# Altium integrated library Xilinx XC9500XL.IntLib: 169 symbols (part 3 of 12)
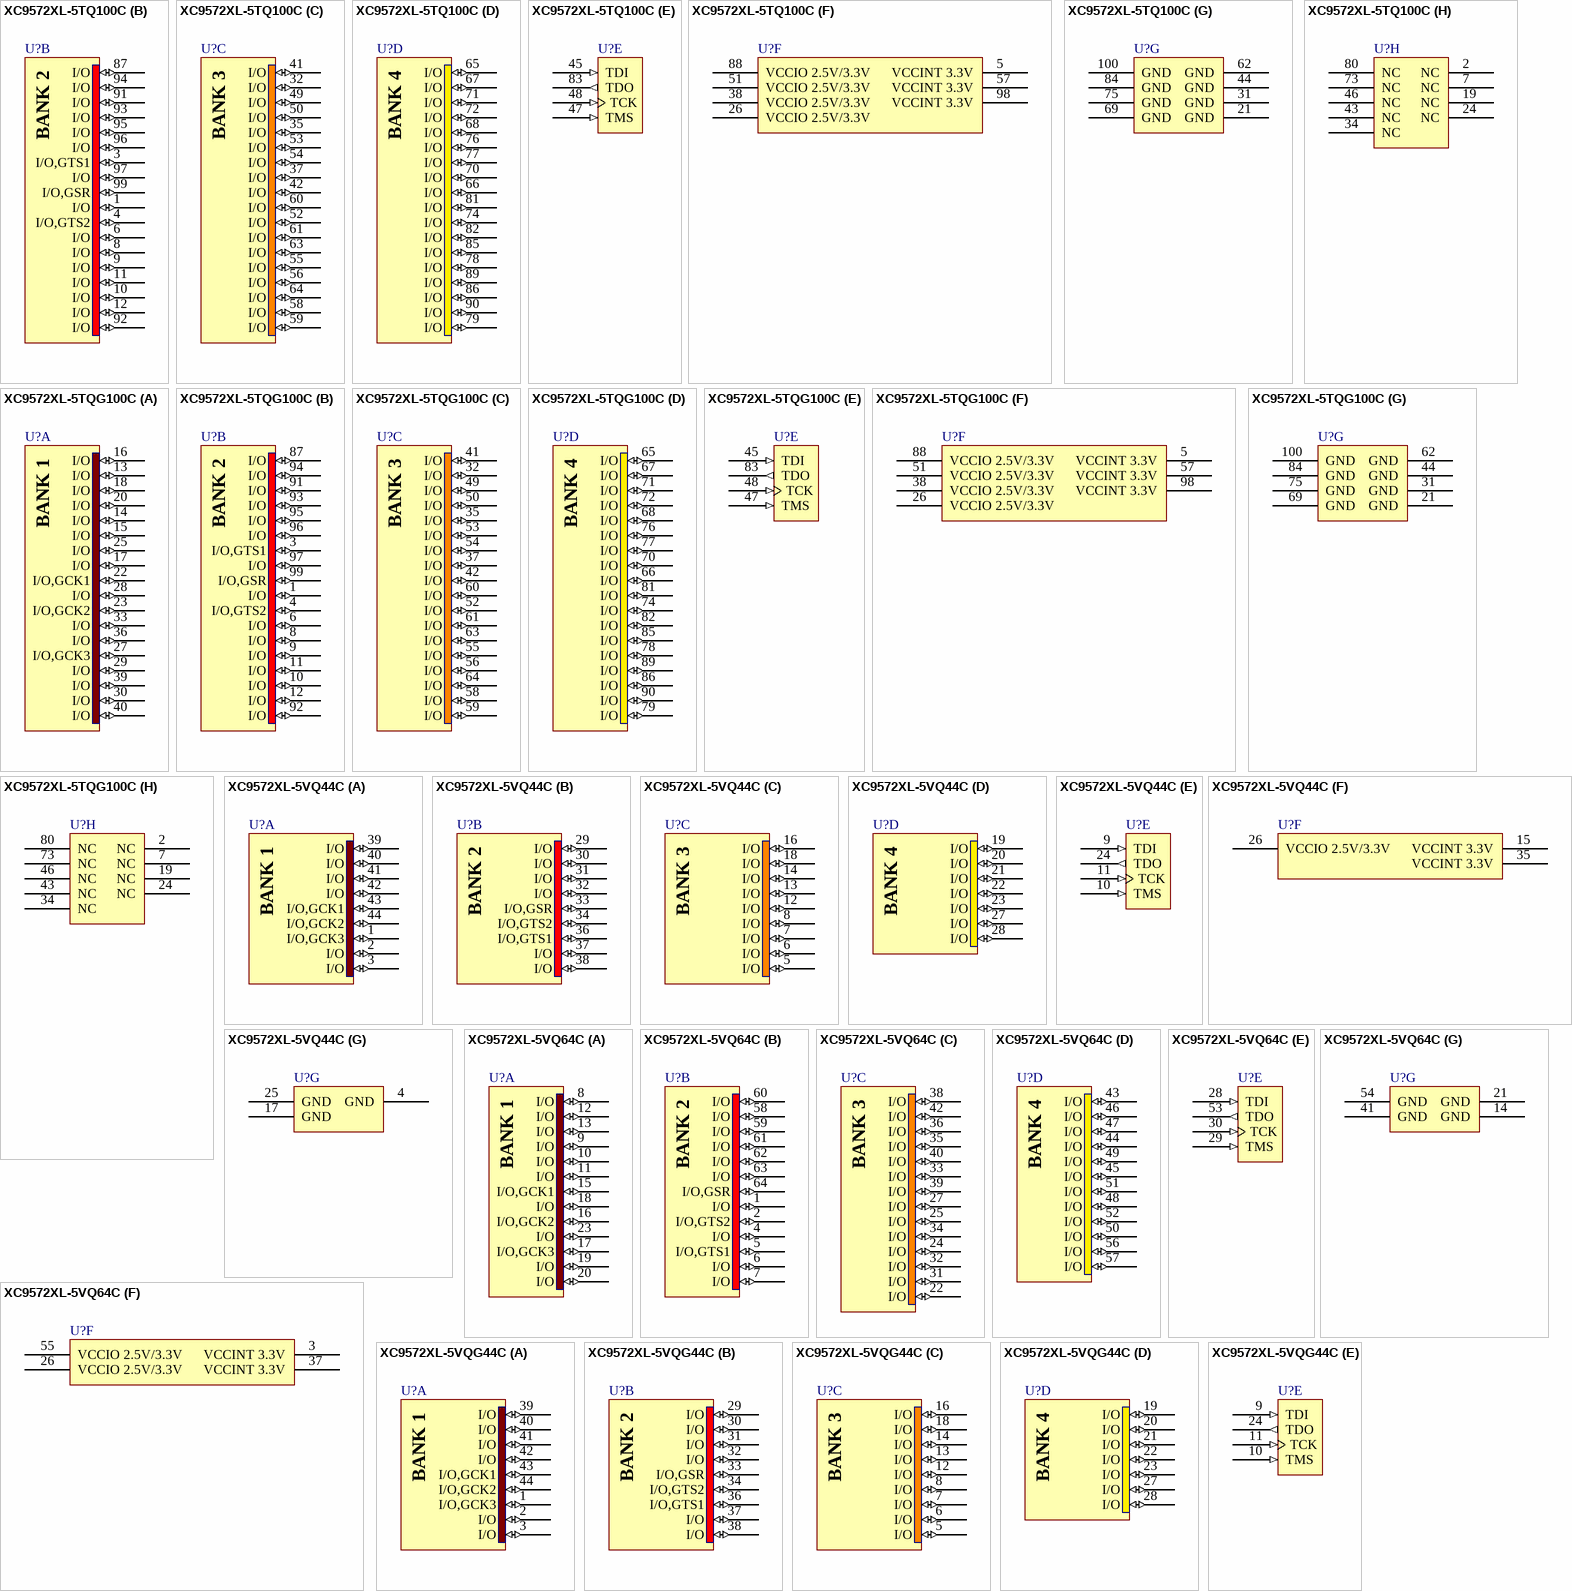
[diagram p60: symbols XC9572XL-5TQ100C to XC9572XL-5VQG44C]

## XC9572XL-5VQ64C
designator U?
FastFLASH XC900XL, 3.3V High-Performance 72 Macrocell CPLD, 52 User I/Os, 64-Pin VQFP, Speed Grade 5, Commercial Grade; Published: 17-Sep-2003; LatestRevisionDate: 18-Nov-2009; LatestRevisionNote: Updated to datasheet version 2.5 May-2009.; DatasheetVersion: ver2.0 Apr-2007; PackageVersion: ver1.2, Jun-2004; PackageReference: VQ64; Publisher: Altium Limited; PackageDescription: 64-Pin Very Thin Quad Flat Pack (VQ64); Supplier 1: Digi-Key; Supplier Part Number 1: XC9572XL-5VQ64C-ND; Code_JEDEC: MS-026-ACD; ComponentLink1Description: XC9572XL Datasheet; ComponentLink1URL: http://www.xilinx.com/support/documentation/data_sheets/ds057.pdf; ComponentLink2Description: VQ64 Package Drawing; ComponentLink2URL: http://www.xilinx.com/support/documentation/package_specs/vq64.pdf; ComponentLink3Description: XC9500XL Documents; ComponentLink3URL: http://www.xilinx.com/support/documentation/xc9500xl.htm; ComponentLink4Description: Xilinx.com Home; ComponentLink4URL: http://www.xilinx.com
footprint VQ64_N (Thin QFP, 64-Leads, Body 10x10mm, Pitch 0.5mm, IPC Medium Density)
footprint VQ64_L (Thin QFP, 64-Leads, Body 10x10mm, Pitch 0.5mm, IPC High Density)
footprint VQ64_M (Thin QFP, 64-Leads, Body 10x10mm, Pitch 0.5mm, IPC Low Density)
signal-integrity model XC9572XL_VQ64 (XC9500XL)
part A pins: 8 I/O (io), 9 I/O (io), 10 I/O (io), 11 I/O (io), 12 I/O (io), 13 I/O (io), 15 I/O,GCK1 (io), 16 I/O,GCK2 (io), 17 I/O,GCK3 (io), 18 I/O (io), 19 I/O (io), 20 I/O (io), 23 I/O (io)
part B pins: 1 I/O (io), 2 I/O,GTS2 (io), 4 I/O (io), 5 I/O,GTS1 (io), 6 I/O (io), 7 I/O (io), 58 I/O (io), 59 I/O (io), 60 I/O (io), 61 I/O (io), 62 I/O (io), 63 I/O (io), 64 I/O,GSR (io)
part C pins: 22 I/O (io), 24 I/O (io), 25 I/O (io), 27 I/O (io), 31 I/O (io), 32 I/O (io), 33 I/O (io), 34 I/O (io), 35 I/O (io), 36 I/O (io), 38 I/O (io), 39 I/O (io), 40 I/O (io), 42 I/O (io)
part D pins: 43 I/O (io), 44 I/O (io), 45 I/O (io), 46 I/O (io), 47 I/O (io), 48 I/O (io), 49 I/O (io), 50 I/O (io), 51 I/O (io), 52 I/O (io), 56 I/O (io), 57 I/O (io)
part E pins: 28 TDI (in), 29 TMS (in), 30 TCK (in), 53 TDO (out)
part F pins: 3 VCCINT 3.3V (power), 26 VCCIO 2.5V/3.3V (power), 37 VCCINT 3.3V (power), 55 VCCIO 2.5V/3.3V (power)
part G pins: 14 GND (power), 21 GND (power), 41 GND (power), 54 GND (power)
part A text: BANK 1
part B text: BANK 2
part C text: BANK 3
part D text: BANK 4

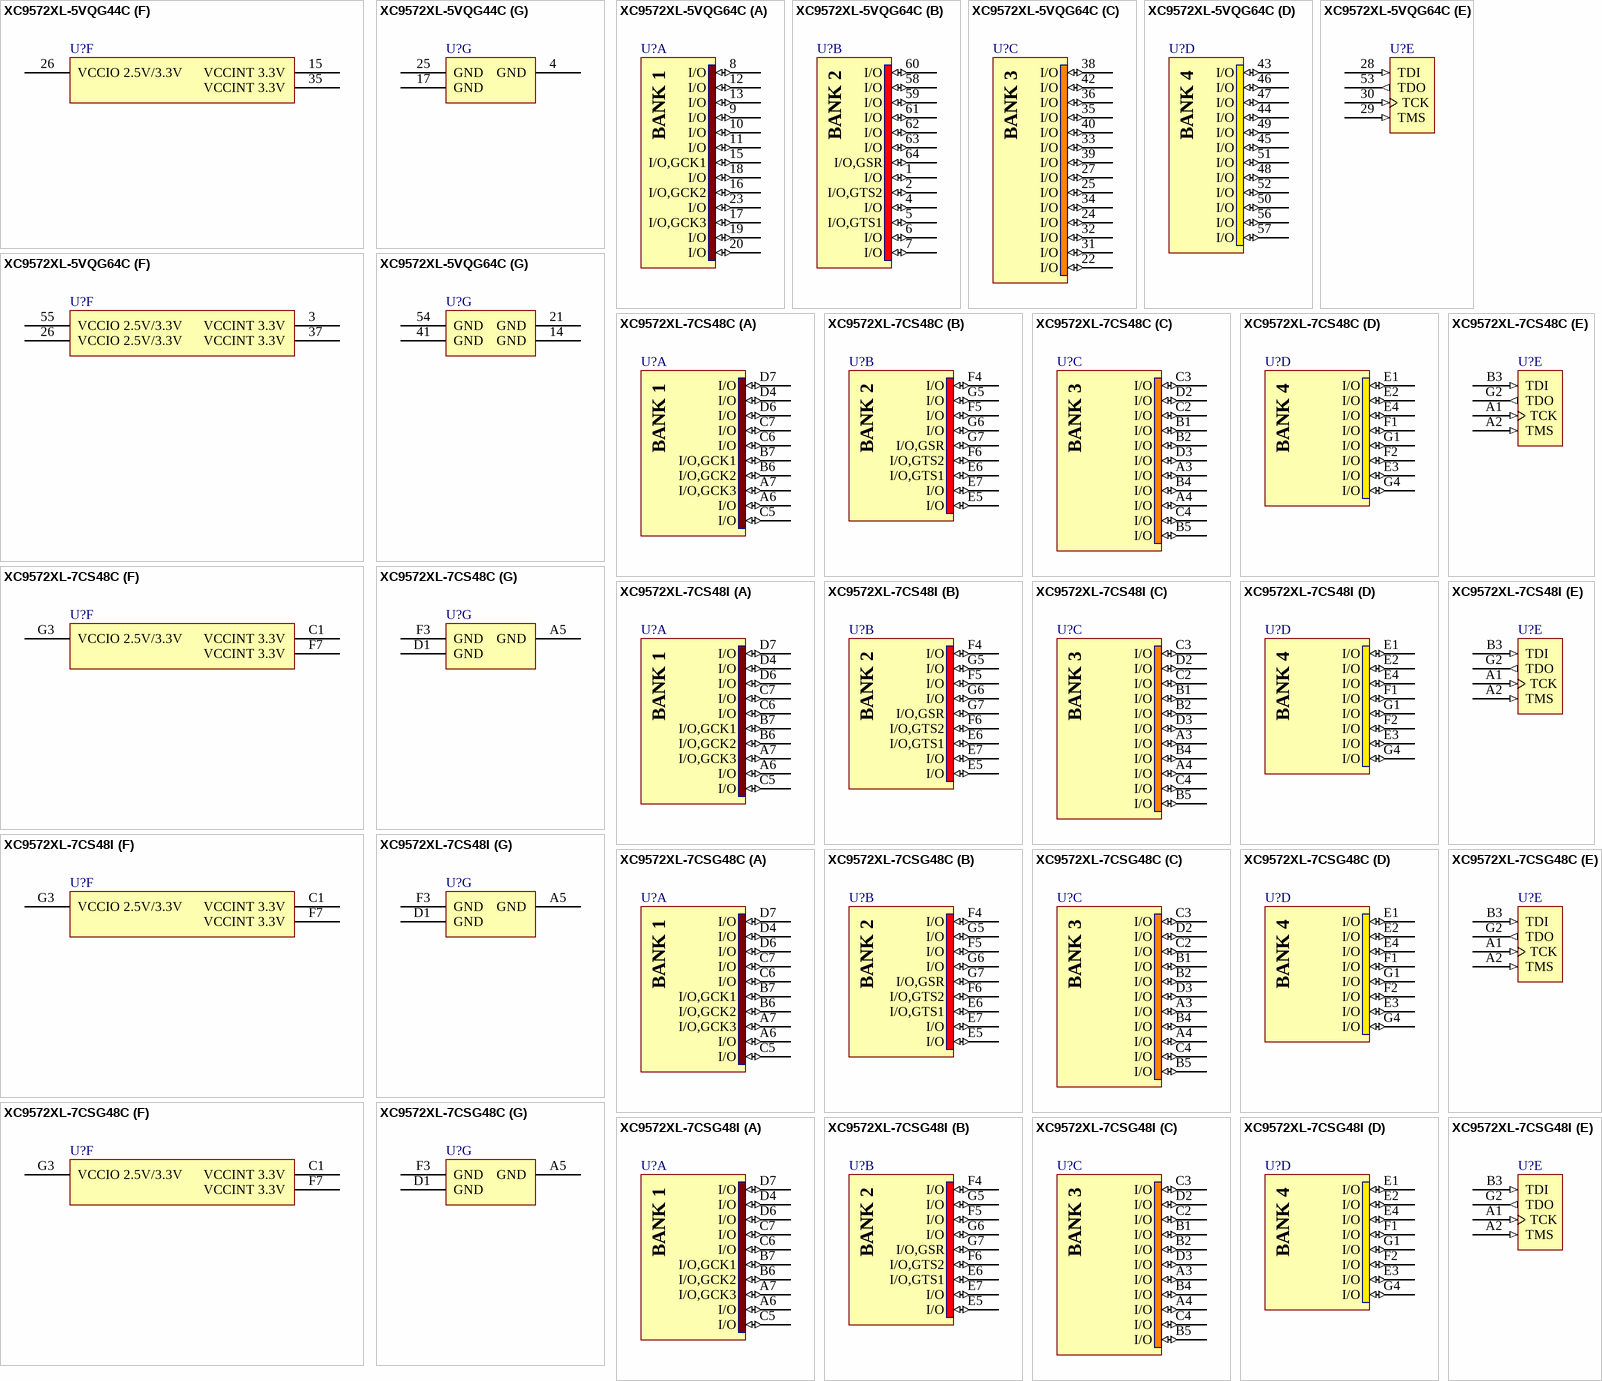
[diagram p10: symbols XC9572XL-5VQG44C to XC9572XL-7CSG48I]

## XC9572XL-5VQG44C
designator U?
FastFLASH XC900XL, 3.3V High-Performance 72 Macrocell CPLD, 34 User I/Os, 44-Pin VQFP, Speed Grade 5, Commercial Grade, Pb-Free; Published: 8-Sep-2006; LatestRevisionDate: 18-Nov-2009; LatestRevisionNote: Updated to datasheet version 2.5 May-2009.; DatasheetVersion: ver2.0 Apr-2007; PackageVersion: ver1.2, Jun-2004; PackageReference: VQG44; Publisher: Altium Limited; PackageDescription: 44-Pin Very Thin Quad Flat Pack (VQG44) - Pb-Free; Supplier 1: Digi-Key; Supplier Part Number 1: XC9572XL-5VQG44C-ND; Code_JEDEC: MS-026-ACB; ComponentLink1Description: XC9572XL Datasheet; ComponentLink1URL: http://www.xilinx.com/support/documentation/data_sheets/ds057.pdf; ComponentLink2Description: VQG44 Package Drawing; ComponentLink2URL: http://www.xilinx.com/support/documentation/package_specs/vq44.pdf; ComponentLink3Description: XC9500XL Documents; ComponentLink3URL: http://www.xilinx.com/support/documentation/xc9500xl.htm; ComponentLink4Description: Xilinx.com Home; ComponentLink4URL: http://www.xilinx.com
footprint VQG44_N (Thin QFP, 44-Leads, Body 10x10mm, Pitch 0.8mm, IPC Medium Density)
footprint VQG44_L (Thin QFP, 44-Leads, Body 10x10mm, Pitch 0.8mm, IPC High Density)
footprint VQG44_M (Thin QFP, 44-Leads, Body 10x10mm, Pitch 0.8mm, IPC Low Density)
signal-integrity model XC9572XL_VQ44 (XC9500XL)
part A pins: 1 I/O,GCK3 (io), 2 I/O (io), 3 I/O (io), 39 I/O (io), 40 I/O (io), 41 I/O (io), 42 I/O (io), 43 I/O,GCK1 (io), 44 I/O,GCK2 (io)
part B pins: 29 I/O (io), 30 I/O (io), 31 I/O (io), 32 I/O (io), 33 I/O,GSR (io), 34 I/O,GTS2 (io), 36 I/O,GTS1 (io), 37 I/O (io), 38 I/O (io)
part C pins: 5 I/O (io), 6 I/O (io), 7 I/O (io), 8 I/O (io), 12 I/O (io), 13 I/O (io), 14 I/O (io), 16 I/O (io), 18 I/O (io)
part D pins: 19 I/O (io), 20 I/O (io), 21 I/O (io), 22 I/O (io), 23 I/O (io), 27 I/O (io), 28 I/O (io)
part E pins: 9 TDI (in), 10 TMS (in), 11 TCK (in), 24 TDO (out)
part F pins: 15 VCCINT 3.3V (power), 26 VCCIO 2.5V/3.3V (power), 35 VCCINT 3.3V (power)
part G pins: 4 GND (power), 17 GND (power), 25 GND (power)
part A text: BANK 1
part B text: BANK 2
part C text: BANK 3
part D text: BANK 4

## XC9572XL-5VQG64C
designator U?
FastFLASH XC900XL, 3.3V High-Performance 72 Macrocell CPLD, 52 User I/Os, 64-Pin VQFP, Speed Grade 5, Commercial Grade, Pb-Free; Published: 8-Sep-2006; LatestRevisionDate: 18-Nov-2009; LatestRevisionNote: Updated to datasheet version 2.5 May-2009.; DatasheetVersion: ver2.0 Apr-2007; PackageVersion: ver1.2, Jun-2004; PackageReference: VQG64; Publisher: Altium Limited; PackageDescription: 64-Pin Very Thin Quad Flat Pack (VQG64) - Pb-Free; Supplier 1: Digi-Key; Supplier Part Number 1: XC9572XL-5VQG64C-ND; Supplier 2: Newark; Supplier Part Number 2: 75R4567; Code_JEDEC: MS-026-ACD; ComponentLink1Description: XC9572XL Datasheet; ComponentLink1URL: http://www.xilinx.com/support/documentation/data_sheets/ds057.pdf; ComponentLink2Description: VQG64 Package Drawing; ComponentLink2URL: http://www.xilinx.com/support/documentation/package_specs/vq64.pdf; ComponentLink3Description: XC9500XL Documents; ComponentLink3URL: http://www.xilinx.com/support/documentation/xc9500xl.htm; ComponentLink4Description: Xilinx.com Home; ComponentLink4URL: http://www.xilinx.com
footprint VQG64_N (Thin QFP, 64-Leads, Body 10x10mm, Pitch 0.5mm, IPC Medium Density)
footprint VQG64_L (Thin QFP, 64-Leads, Body 10x10mm, Pitch 0.5mm, IPC High Density)
footprint VQG64_M (Thin QFP, 64-Leads, Body 10x10mm, Pitch 0.5mm, IPC Low Density)
signal-integrity model XC9572XL_VQ64 (XC9500XL)
part A pins: 8 I/O (io), 9 I/O (io), 10 I/O (io), 11 I/O (io), 12 I/O (io), 13 I/O (io), 15 I/O,GCK1 (io), 16 I/O,GCK2 (io), 17 I/O,GCK3 (io), 18 I/O (io), 19 I/O (io), 20 I/O (io), 23 I/O (io)
part B pins: 1 I/O (io), 2 I/O,GTS2 (io), 4 I/O (io), 5 I/O,GTS1 (io), 6 I/O (io), 7 I/O (io), 58 I/O (io), 59 I/O (io), 60 I/O (io), 61 I/O (io), 62 I/O (io), 63 I/O (io), 64 I/O,GSR (io)
part C pins: 22 I/O (io), 24 I/O (io), 25 I/O (io), 27 I/O (io), 31 I/O (io), 32 I/O (io), 33 I/O (io), 34 I/O (io), 35 I/O (io), 36 I/O (io), 38 I/O (io), 39 I/O (io), 40 I/O (io), 42 I/O (io)
part D pins: 43 I/O (io), 44 I/O (io), 45 I/O (io), 46 I/O (io), 47 I/O (io), 48 I/O (io), 49 I/O (io), 50 I/O (io), 51 I/O (io), 52 I/O (io), 56 I/O (io), 57 I/O (io)
part E pins: 28 TDI (in), 29 TMS (in), 30 TCK (in), 53 TDO (out)
part F pins: 3 VCCINT 3.3V (power), 26 VCCIO 2.5V/3.3V (power), 37 VCCINT 3.3V (power), 55 VCCIO 2.5V/3.3V (power)
part G pins: 14 GND (power), 21 GND (power), 41 GND (power), 54 GND (power)
part A text: BANK 1
part B text: BANK 2
part C text: BANK 3
part D text: BANK 4

## XC9572XL-7CS48C
designator U?
FastFLASH XC900XL, 3.3V High-Performance 72 Macrocell CPLD, 38 User I/Os, 48-Ball CSBGA, Speed Grade 7, Commercial Grade; Published: 17-Jul-2002; LatestRevisionDate: 18-Nov-2009; LatestRevisionNote: Updated to datasheet version 2.5 May-2009.; DatasheetVersion: ver2.0 Apr-2007; PackageVersion: ver1.2.1, Apr-2005; PackageReference: CS48; Publisher: Altium Limited; PackageDescription: 48-Ball Chip Scale Ball Grid Array (CS48); Supplier 1: Digi-Key; Supplier Part Number 1: XC9572XL-7CS48C-ND; ComponentLink1Description: XC9572XL Datasheet; ComponentLink1URL: http://www.xilinx.com/support/documentation/data_sheets/ds057.pdf; ComponentLink2Description: CS48 Package Drawing; ComponentLink2URL: http://www.xilinx.com/support/documentation/package_specs/cs48.pdf; ComponentLink3Description: XC9500XL Documents; ComponentLink3URL: http://www.xilinx.com/support/documentation/xc9500xl.htm; ComponentLink4Description: Xilinx.com Home; ComponentLink4URL: http://www.xilinx.com
footprint CS48 (BGA, 48-Leads, Body 7x7mm, Pitch 0.8mm)
signal-integrity model XC9572XL_CS48 (XC9500XL)
part A pins: A6 I/O (io), A7 I/O,GCK3 (io), B6 I/O,GCK2 (io), B7 I/O,GCK1 (io), C5 I/O (io), C6 I/O (io), C7 I/O (io), D4 I/O (io), D6 I/O (io), D7 I/O (io)
part B pins: E5 I/O (io), E6 I/O,GTS1 (io), E7 I/O (io), F4 I/O (io), F5 I/O (io), F6 I/O,GTS2 (io), G5 I/O (io), G6 I/O (io), G7 I/O,GSR (io)
part C pins: A3 I/O (io), A4 I/O (io), B1 I/O (io), B2 I/O (io), B4 I/O (io), B5 I/O (io), C2 I/O (io), C3 I/O (io), C4 I/O (io), D2 I/O (io), D3 I/O (io)
part D pins: E1 I/O (io), E2 I/O (io), E3 I/O (io), E4 I/O (io), F1 I/O (io), F2 I/O (io), G1 I/O (io), G4 I/O (io)
part E pins: A1 TCK (in), A2 TMS (in), B3 TDI (in), G2 TDO (out)
part F pins: C1 VCCINT 3.3V (power), F7 VCCINT 3.3V (power), G3 VCCIO 2.5V/3.3V (power)
part G pins: A5 GND (power), D1 GND (power), F3 GND (power)
part A text: BANK 1
part B text: BANK 2
part C text: BANK 3
part D text: BANK 4

## XC9572XL-7CS48I
designator U?
FastFLASH XC900XL, 3.3V High-Performance 72 Macrocell CPLD, 38 User I/Os, 48-Ball CSBGA, Speed Grade 7, Industrial Grade; Published: 17-Sep-2003; LatestRevisionDate: 18-Nov-2009; LatestRevisionNote: Updated to datasheet version 2.5 May-2009.; DatasheetVersion: ver2.0 Apr-2007; PackageVersion: ver1.2.1, Apr-2005; PackageReference: CS48; Publisher: Altium Limited; PackageDescription: 48-Ball Chip Scale Ball Grid Array (CS48); ComponentLink1Description: XC9572XL Datasheet; ComponentLink1URL: http://www.xilinx.com/support/documentation/data_sheets/ds057.pdf; ComponentLink2Description: CS48 Package Drawing; ComponentLink2URL: http://www.xilinx.com/support/documentation/package_specs/cs48.pdf; ComponentLink3Description: XC9500XL Documents; ComponentLink3URL: http://www.xilinx.com/support/documentation/xc9500xl.htm; ComponentLink4Description: Xilinx.com Home; ComponentLink4URL: http://www.xilinx.com
footprint CS48 (BGA, 48-Leads, Body 7x7mm, Pitch 0.8mm)
signal-integrity model XC9572XL_CS48 (XC9500XL)
part A pins: A6 I/O (io), A7 I/O,GCK3 (io), B6 I/O,GCK2 (io), B7 I/O,GCK1 (io), C5 I/O (io), C6 I/O (io), C7 I/O (io), D4 I/O (io), D6 I/O (io), D7 I/O (io)
part B pins: E5 I/O (io), E6 I/O,GTS1 (io), E7 I/O (io), F4 I/O (io), F5 I/O (io), F6 I/O,GTS2 (io), G5 I/O (io), G6 I/O (io), G7 I/O,GSR (io)
part C pins: A3 I/O (io), A4 I/O (io), B1 I/O (io), B2 I/O (io), B4 I/O (io), B5 I/O (io), C2 I/O (io), C3 I/O (io), C4 I/O (io), D2 I/O (io), D3 I/O (io)
part D pins: E1 I/O (io), E2 I/O (io), E3 I/O (io), E4 I/O (io), F1 I/O (io), F2 I/O (io), G1 I/O (io), G4 I/O (io)
part E pins: A1 TCK (in), A2 TMS (in), B3 TDI (in), G2 TDO (out)
part F pins: C1 VCCINT 3.3V (power), F7 VCCINT 3.3V (power), G3 VCCIO 2.5V/3.3V (power)
part G pins: A5 GND (power), D1 GND (power), F3 GND (power)
part A text: BANK 1
part B text: BANK 2
part C text: BANK 3
part D text: BANK 4

## XC9572XL-7CSG48C
designator U?
FastFLASH XC900XL, 3.3V High-Performance 72 Macrocell CPLD, 38 User I/Os, 48-Ball CSBGA, Speed Grade 7, Commercial Grade, Pb-Free; Published: 8-Sep-2006; LatestRevisionDate: 18-Nov-2009; LatestRevisionNote: Updated to datasheet version 2.5 May-2009.; DatasheetVersion: ver2.0 Apr-2007; PackageVersion: ver1.2.1, Apr-2005; PackageReference: CSG48; Publisher: Altium Limited; PackageDescription: 48-Ball Chip Scale Ball Grid Array (CSG48) - Pb-Free; Supplier 1: Digi-Key; Supplier Part Number 1: XC9572XL-7CSG48C-ND; ComponentLink1Description: XC9572XL Datasheet; ComponentLink1URL: http://www.xilinx.com/support/documentation/data_sheets/ds057.pdf; ComponentLink2Description: CSG48 Package Drawing; ComponentLink2URL: http://www.xilinx.com/support/documentation/package_specs/cs48.pdf; ComponentLink3Description: XC9500XL Documents; ComponentLink3URL: http://www.xilinx.com/support/documentation/xc9500xl.htm; ComponentLink4Description: Xilinx.com Home; ComponentLink4URL: http://www.xilinx.com
footprint CSG48 (BGA, 48-Leads, Body 7x7mm, Pitch 0.8mm)
signal-integrity model XC9572XL_CS48 (XC9500XL)
part A pins: A6 I/O (io), A7 I/O,GCK3 (io), B6 I/O,GCK2 (io), B7 I/O,GCK1 (io), C5 I/O (io), C6 I/O (io), C7 I/O (io), D4 I/O (io), D6 I/O (io), D7 I/O (io)
part B pins: E5 I/O (io), E6 I/O,GTS1 (io), E7 I/O (io), F4 I/O (io), F5 I/O (io), F6 I/O,GTS2 (io), G5 I/O (io), G6 I/O (io), G7 I/O,GSR (io)
part C pins: A3 I/O (io), A4 I/O (io), B1 I/O (io), B2 I/O (io), B4 I/O (io), B5 I/O (io), C2 I/O (io), C3 I/O (io), C4 I/O (io), D2 I/O (io), D3 I/O (io)
part D pins: E1 I/O (io), E2 I/O (io), E3 I/O (io), E4 I/O (io), F1 I/O (io), F2 I/O (io), G1 I/O (io), G4 I/O (io)
part E pins: A1 TCK (in), A2 TMS (in), B3 TDI (in), G2 TDO (out)
part F pins: C1 VCCINT 3.3V (power), F7 VCCINT 3.3V (power), G3 VCCIO 2.5V/3.3V (power)
part G pins: A5 GND (power), D1 GND (power), F3 GND (power)
part A text: BANK 1
part B text: BANK 2
part C text: BANK 3
part D text: BANK 4

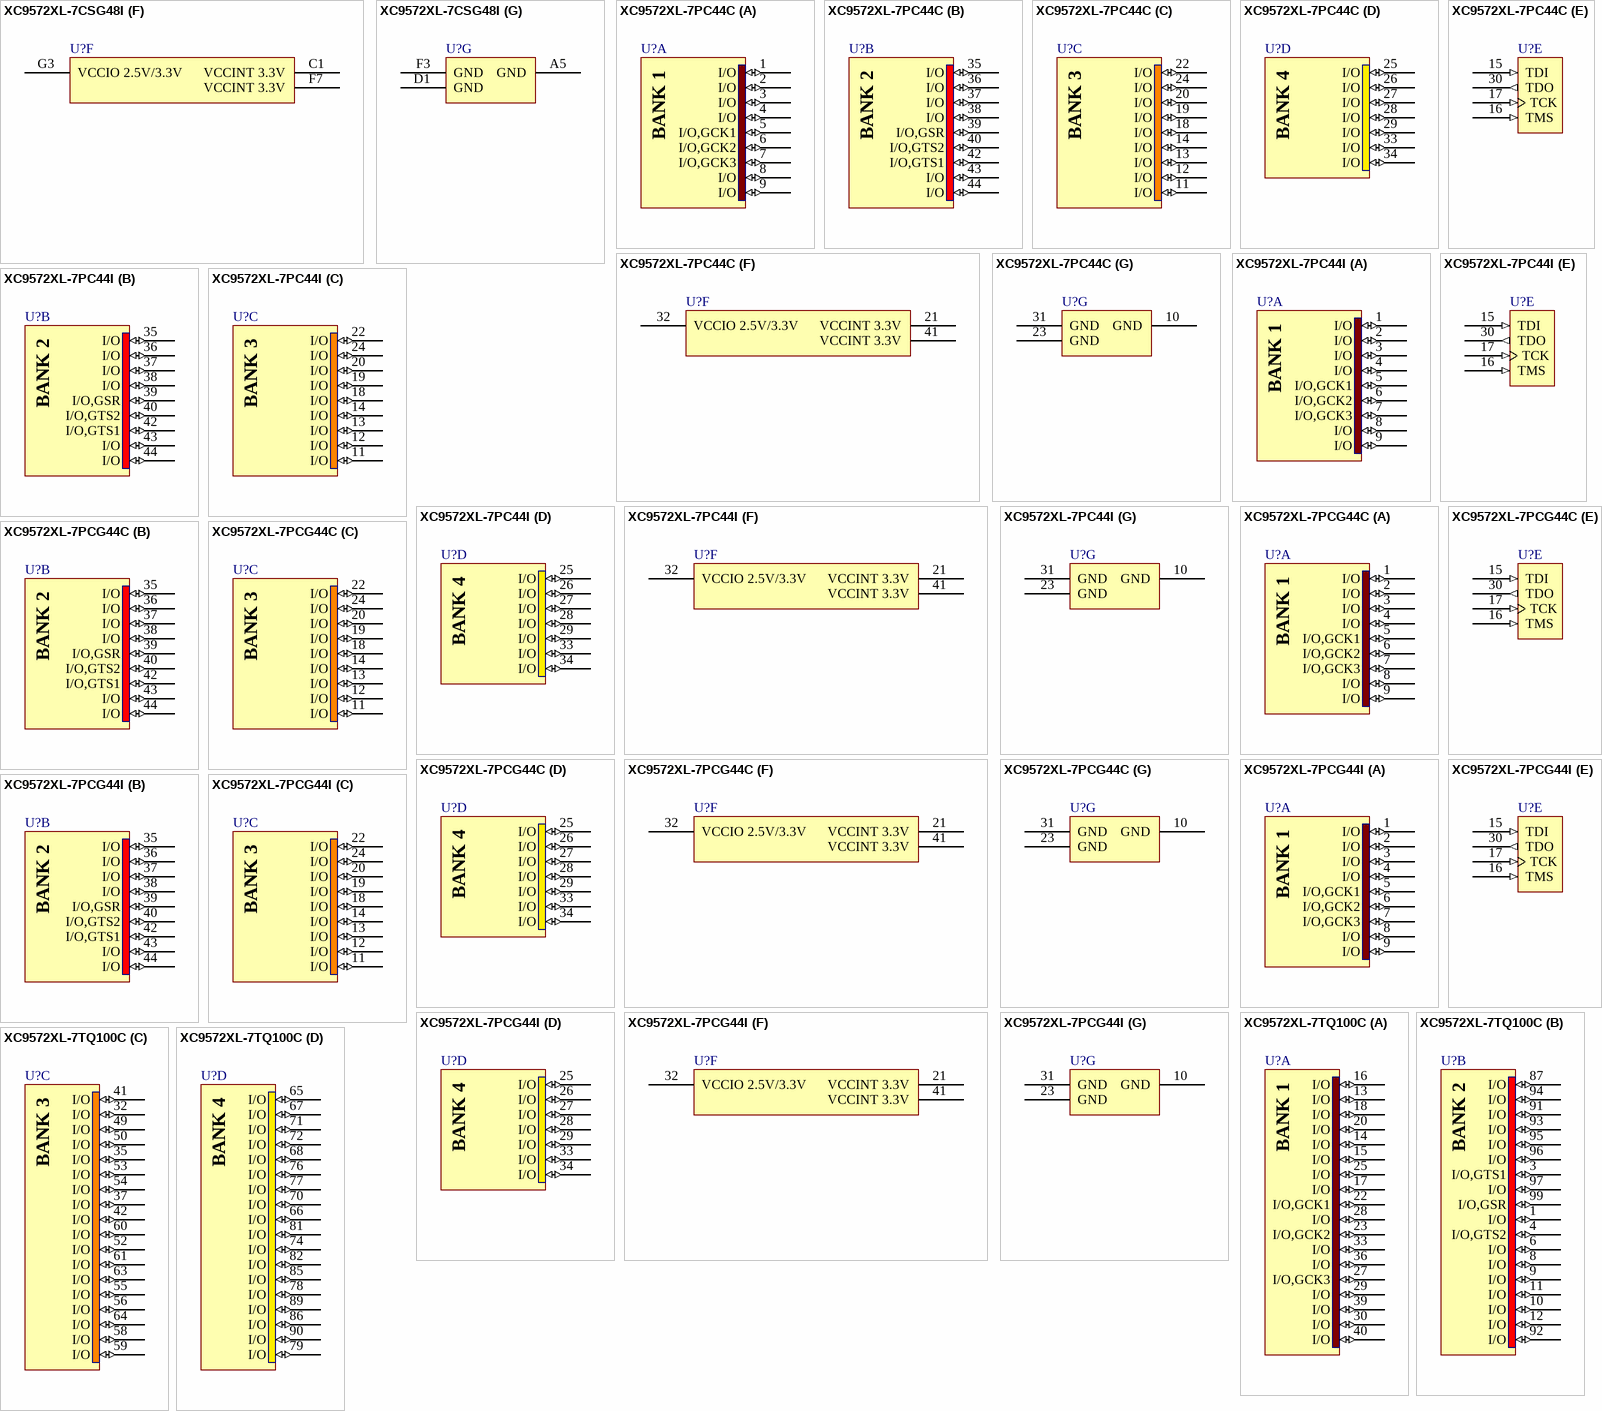
[diagram p11: symbols XC9572XL-7CSG48I to XC9572XL-7TQ100C]

## XC9572XL-7CSG48I
designator U?
FastFLASH XC900XL, 3.3V High-Performance 72 Macrocell CPLD, 38 User I/Os, 48-Ball CSBGA, Speed Grade 7, Industrial Grade, Pb-Free; Published: 8-Sep-2006; LatestRevisionDate: 18-Nov-2009; LatestRevisionNote: Updated to datasheet version 2.5 May-2009.; DatasheetVersion: ver2.0 Apr-2007; PackageVersion: ver1.2.1, Apr-2005; PackageReference: CSG48; Publisher: Altium Limited; PackageDescription: 48-Ball Chip Scale Ball Grid Array (CSG48) - Pb-Free; Supplier 1: Digi-Key; Supplier Part Number 1: XC9572XL-7CSG48I-ND; ComponentLink1Description: XC9572XL Datasheet; ComponentLink1URL: http://www.xilinx.com/support/documentation/data_sheets/ds057.pdf; ComponentLink2Description: CSG48 Package Drawing; ComponentLink2URL: http://www.xilinx.com/support/documentation/package_specs/cs48.pdf; ComponentLink3Description: XC9500XL Documents; ComponentLink3URL: http://www.xilinx.com/support/documentation/xc9500xl.htm; ComponentLink4Description: Xilinx.com Home; ComponentLink4URL: http://www.xilinx.com
footprint CSG48 (BGA, 48-Leads, Body 7x7mm, Pitch 0.8mm)
signal-integrity model XC9572XL_CS48 (XC9500XL)
part A pins: A6 I/O (io), A7 I/O,GCK3 (io), B6 I/O,GCK2 (io), B7 I/O,GCK1 (io), C5 I/O (io), C6 I/O (io), C7 I/O (io), D4 I/O (io), D6 I/O (io), D7 I/O (io)
part B pins: E5 I/O (io), E6 I/O,GTS1 (io), E7 I/O (io), F4 I/O (io), F5 I/O (io), F6 I/O,GTS2 (io), G5 I/O (io), G6 I/O (io), G7 I/O,GSR (io)
part C pins: A3 I/O (io), A4 I/O (io), B1 I/O (io), B2 I/O (io), B4 I/O (io), B5 I/O (io), C2 I/O (io), C3 I/O (io), C4 I/O (io), D2 I/O (io), D3 I/O (io)
part D pins: E1 I/O (io), E2 I/O (io), E3 I/O (io), E4 I/O (io), F1 I/O (io), F2 I/O (io), G1 I/O (io), G4 I/O (io)
part E pins: A1 TCK (in), A2 TMS (in), B3 TDI (in), G2 TDO (out)
part F pins: C1 VCCINT 3.3V (power), F7 VCCINT 3.3V (power), G3 VCCIO 2.5V/3.3V (power)
part G pins: A5 GND (power), D1 GND (power), F3 GND (power)
part A text: BANK 1
part B text: BANK 2
part C text: BANK 3
part D text: BANK 4

## XC9572XL-7PC44C
designator U?
FastFLASH XC900XL, 3.3V High-Performance 72 Macrocell CPLD, 34 User I/Os, 44-Pin PLCC, Speed Grade 7, Commercial Grade; Published: 17-Jul-2002; LatestRevisionDate: 18-Nov-2009; LatestRevisionNote: Updated to datasheet version 2.5 May-2009.; DatasheetVersion: ver2.0 Apr-2007; PackageVersion: ver1.2, Jun-2004; PackageReference: PC44; Publisher: Altium Limited; PackageDescription: 44-Pin Plastic Leaded Chip Carrier (PC44); Supplier 1: Digi-Key; Supplier Part Number 1: 122-1270-ND; Code_JEDEC: MS-047; Code_IPC: PLCC-44; ComponentLink1Description: XC9572XL Datasheet; ComponentLink1URL: http://www.xilinx.com/support/documentation/data_sheets/ds057.pdf; ComponentLink2Description: PC44 Package Drawing; ComponentLink2URL: http://www.xilinx.com/support/documentation/package_specs/pc44.pdf; ComponentLink3Description: XC9500XL Documents; ComponentLink3URL: http://www.xilinx.com/support/documentation/xc9500xl.htm; ComponentLink4Description: Xilinx.com Home; ComponentLink4URL: http://www.xilinx.com
footprint PC44_N (Leaded Chip Carrier, 44-Leads, Body 16.6x16.6mm, Pitch 1.27mm, IPC Medium Density)
footprint PC44_L (Leaded Chip Carrier, 44-Leads, Body 16.6x16.6mm, Pitch 1.27mm, IPC High Density)
footprint PC44_M (Leaded Chip Carrier, 44-Leads, Body 16.6x16.6mm, Pitch 1.27mm, IPC Low Density)
signal-integrity model XC9572XL_PLCC44 (XC9500XL)
part A pins: 1 I/O (io), 2 I/O (io), 3 I/O (io), 4 I/O (io), 5 I/O,GCK1 (io), 6 I/O,GCK2 (io), 7 I/O,GCK3 (io), 8 I/O (io), 9 I/O (io)
part B pins: 35 I/O (io), 36 I/O (io), 37 I/O (io), 38 I/O (io), 39 I/O,GSR (io), 40 I/O,GTS2 (io), 42 I/O,GTS1 (io), 43 I/O (io), 44 I/O (io)
part C pins: 11 I/O (io), 12 I/O (io), 13 I/O (io), 14 I/O (io), 18 I/O (io), 19 I/O (io), 20 I/O (io), 22 I/O (io), 24 I/O (io)
part D pins: 25 I/O (io), 26 I/O (io), 27 I/O (io), 28 I/O (io), 29 I/O (io), 33 I/O (io), 34 I/O (io)
part E pins: 15 TDI (in), 16 TMS (in), 17 TCK (in), 30 TDO (out)
part F pins: 21 VCCINT 3.3V (power), 32 VCCIO 2.5V/3.3V (power), 41 VCCINT 3.3V (power)
part G pins: 10 GND (power), 23 GND (power), 31 GND (power)
part A text: BANK 1
part B text: BANK 2
part C text: BANK 3
part D text: BANK 4

## XC9572XL-7PC44I
designator U?
FastFLASH XC900XL, 3.3V High-Performance 72 Macrocell CPLD, 34 User I/Os, 44-Pin PLCC, Speed Grade 7, Industrial Grade; Published: 17-Jul-2002; LatestRevisionDate: 18-Nov-2009; LatestRevisionNote: Updated to datasheet version 2.5 May-2009.; DatasheetVersion: ver2.0 Apr-2007; PackageVersion: ver1.2, Jun-2004; PackageReference: PC44; Publisher: Altium Limited; PackageDescription: 44-Pin Plastic Leaded Chip Carrier (PC44); Code_JEDEC: MS-047; Code_IPC: PLCC-44; ComponentLink1Description: XC9572XL Datasheet; ComponentLink1URL: http://www.xilinx.com/support/documentation/data_sheets/ds057.pdf; ComponentLink2Description: PC44 Package Drawing; ComponentLink2URL: http://www.xilinx.com/support/documentation/package_specs/pc44.pdf; ComponentLink3Description: XC9500XL Documents; ComponentLink3URL: http://www.xilinx.com/support/documentation/xc9500xl.htm; ComponentLink4Description: Xilinx.com Home; ComponentLink4URL: http://www.xilinx.com
footprint PC44_N (Leaded Chip Carrier, 44-Leads, Body 16.6x16.6mm, Pitch 1.27mm, IPC Medium Density)
footprint PC44_L (Leaded Chip Carrier, 44-Leads, Body 16.6x16.6mm, Pitch 1.27mm, IPC High Density)
footprint PC44_M (Leaded Chip Carrier, 44-Leads, Body 16.6x16.6mm, Pitch 1.27mm, IPC Low Density)
signal-integrity model XC9572XL_PLCC44 (XC9500XL)
part A pins: 1 I/O (io), 2 I/O (io), 3 I/O (io), 4 I/O (io), 5 I/O,GCK1 (io), 6 I/O,GCK2 (io), 7 I/O,GCK3 (io), 8 I/O (io), 9 I/O (io)
part B pins: 35 I/O (io), 36 I/O (io), 37 I/O (io), 38 I/O (io), 39 I/O,GSR (io), 40 I/O,GTS2 (io), 42 I/O,GTS1 (io), 43 I/O (io), 44 I/O (io)
part C pins: 11 I/O (io), 12 I/O (io), 13 I/O (io), 14 I/O (io), 18 I/O (io), 19 I/O (io), 20 I/O (io), 22 I/O (io), 24 I/O (io)
part D pins: 25 I/O (io), 26 I/O (io), 27 I/O (io), 28 I/O (io), 29 I/O (io), 33 I/O (io), 34 I/O (io)
part E pins: 15 TDI (in), 16 TMS (in), 17 TCK (in), 30 TDO (out)
part F pins: 21 VCCINT 3.3V (power), 32 VCCIO 2.5V/3.3V (power), 41 VCCINT 3.3V (power)
part G pins: 10 GND (power), 23 GND (power), 31 GND (power)
part A text: BANK 1
part B text: BANK 2
part C text: BANK 3
part D text: BANK 4

## XC9572XL-7PCG44C
designator U?
FastFLASH XC900XL, 3.3V High-Performance 72 Macrocell CPLD, 34 User I/Os, 44-Pin PLCC, Speed Grade 7, Commercial Grade, Pb-Free; Published: 8-Sep-2006; LatestRevisionDate: 18-Nov-2009; LatestRevisionNote: Updated to datasheet version 2.5 May-2009.; DatasheetVersion: ver2.0 Apr-2007; PackageVersion: ver1.2, Jun-2004; PackageReference: PCG44; Publisher: Altium Limited; PackageDescription: 44-Pin Plastic Leaded Chip Carrier (PCG44) - Pb-Free; Supplier 1: Digi-Key; Supplier Part Number 1: XC9572XL-7PCG44C-ND; Code_JEDEC: MS-047; Code_IPC: PLCC-44; ComponentLink1Description: XC9572XL Datasheet; ComponentLink1URL: http://www.xilinx.com/support/documentation/data_sheets/ds057.pdf; ComponentLink2Description: PCG44 Package Drawing; ComponentLink2URL: http://www.xilinx.com/support/documentation/package_specs/pc44.pdf; ComponentLink3Description: XC9500XL Documents; ComponentLink3URL: http://www.xilinx.com/support/documentation/xc9500xl.htm; ComponentLink4Description: Xilinx.com Home; ComponentLink4URL: http://www.xilinx.com
footprint PCG44_N (Leaded Chip Carrier, 44-Leads, Body 16.6x16.6mm, Pitch 1.27mm, IPC Medium Density)
footprint PCG44_L (Leaded Chip Carrier, 44-Leads, Body 16.6x16.6mm, Pitch 1.27mm, IPC High Density)
footprint PCG44_M (Leaded Chip Carrier, 44-Leads, Body 16.6x16.6mm, Pitch 1.27mm, IPC Low Density)
signal-integrity model XC9572XL_PLCC44 (XC9500XL)
part A pins: 1 I/O (io), 2 I/O (io), 3 I/O (io), 4 I/O (io), 5 I/O,GCK1 (io), 6 I/O,GCK2 (io), 7 I/O,GCK3 (io), 8 I/O (io), 9 I/O (io)
part B pins: 35 I/O (io), 36 I/O (io), 37 I/O (io), 38 I/O (io), 39 I/O,GSR (io), 40 I/O,GTS2 (io), 42 I/O,GTS1 (io), 43 I/O (io), 44 I/O (io)
part C pins: 11 I/O (io), 12 I/O (io), 13 I/O (io), 14 I/O (io), 18 I/O (io), 19 I/O (io), 20 I/O (io), 22 I/O (io), 24 I/O (io)
part D pins: 25 I/O (io), 26 I/O (io), 27 I/O (io), 28 I/O (io), 29 I/O (io), 33 I/O (io), 34 I/O (io)
part E pins: 15 TDI (in), 16 TMS (in), 17 TCK (in), 30 TDO (out)
part F pins: 21 VCCINT 3.3V (power), 32 VCCIO 2.5V/3.3V (power), 41 VCCINT 3.3V (power)
part G pins: 10 GND (power), 23 GND (power), 31 GND (power)
part A text: BANK 1
part B text: BANK 2
part C text: BANK 3
part D text: BANK 4

## XC9572XL-7PCG44I
designator U?
FastFLASH XC900XL, 3.3V High-Performance 72 Macrocell CPLD, 34 User I/Os, 44-Pin PLCC, Speed Grade 7, Industrial Grade, Pb-Free; Published: 8-Sep-2006; LatestRevisionDate: 18-Nov-2009; LatestRevisionNote: Updated to datasheet version 2.5 May-2009.; DatasheetVersion: ver2.0 Apr-2007; PackageVersion: ver1.2, Jun-2004; PackageReference: PCG44; Publisher: Altium Limited; PackageDescription: 44-Pin Plastic Leaded Chip Carrier (PCG44) - Pb-Free; Supplier 1: Digi-Key; Supplier Part Number 1: XC9572XL-7PCG44I-ND; Code_JEDEC: MS-047; Code_IPC: PLCC-44; ComponentLink1Description: XC9572XL Datasheet; ComponentLink1URL: http://www.xilinx.com/support/documentation/data_sheets/ds057.pdf; ComponentLink2Description: PCG44 Package Drawing; ComponentLink2URL: http://www.xilinx.com/support/documentation/package_specs/pc44.pdf; ComponentLink3Description: XC9500XL Documents; ComponentLink3URL: http://www.xilinx.com/support/documentation/xc9500xl.htm; ComponentLink4Description: Xilinx.com Home; ComponentLink4URL: http://www.xilinx.com
footprint PCG44_N (Leaded Chip Carrier, 44-Leads, Body 16.6x16.6mm, Pitch 1.27mm, IPC Medium Density)
footprint PCG44_L (Leaded Chip Carrier, 44-Leads, Body 16.6x16.6mm, Pitch 1.27mm, IPC High Density)
footprint PCG44_M (Leaded Chip Carrier, 44-Leads, Body 16.6x16.6mm, Pitch 1.27mm, IPC Low Density)
signal-integrity model XC9572XL_PLCC44 (XC9500XL)
part A pins: 1 I/O (io), 2 I/O (io), 3 I/O (io), 4 I/O (io), 5 I/O,GCK1 (io), 6 I/O,GCK2 (io), 7 I/O,GCK3 (io), 8 I/O (io), 9 I/O (io)
part B pins: 35 I/O (io), 36 I/O (io), 37 I/O (io), 38 I/O (io), 39 I/O,GSR (io), 40 I/O,GTS2 (io), 42 I/O,GTS1 (io), 43 I/O (io), 44 I/O (io)
part C pins: 11 I/O (io), 12 I/O (io), 13 I/O (io), 14 I/O (io), 18 I/O (io), 19 I/O (io), 20 I/O (io), 22 I/O (io), 24 I/O (io)
part D pins: 25 I/O (io), 26 I/O (io), 27 I/O (io), 28 I/O (io), 29 I/O (io), 33 I/O (io), 34 I/O (io)
part E pins: 15 TDI (in), 16 TMS (in), 17 TCK (in), 30 TDO (out)
part F pins: 21 VCCINT 3.3V (power), 32 VCCIO 2.5V/3.3V (power), 41 VCCINT 3.3V (power)
part G pins: 10 GND (power), 23 GND (power), 31 GND (power)
part A text: BANK 1
part B text: BANK 2
part C text: BANK 3
part D text: BANK 4

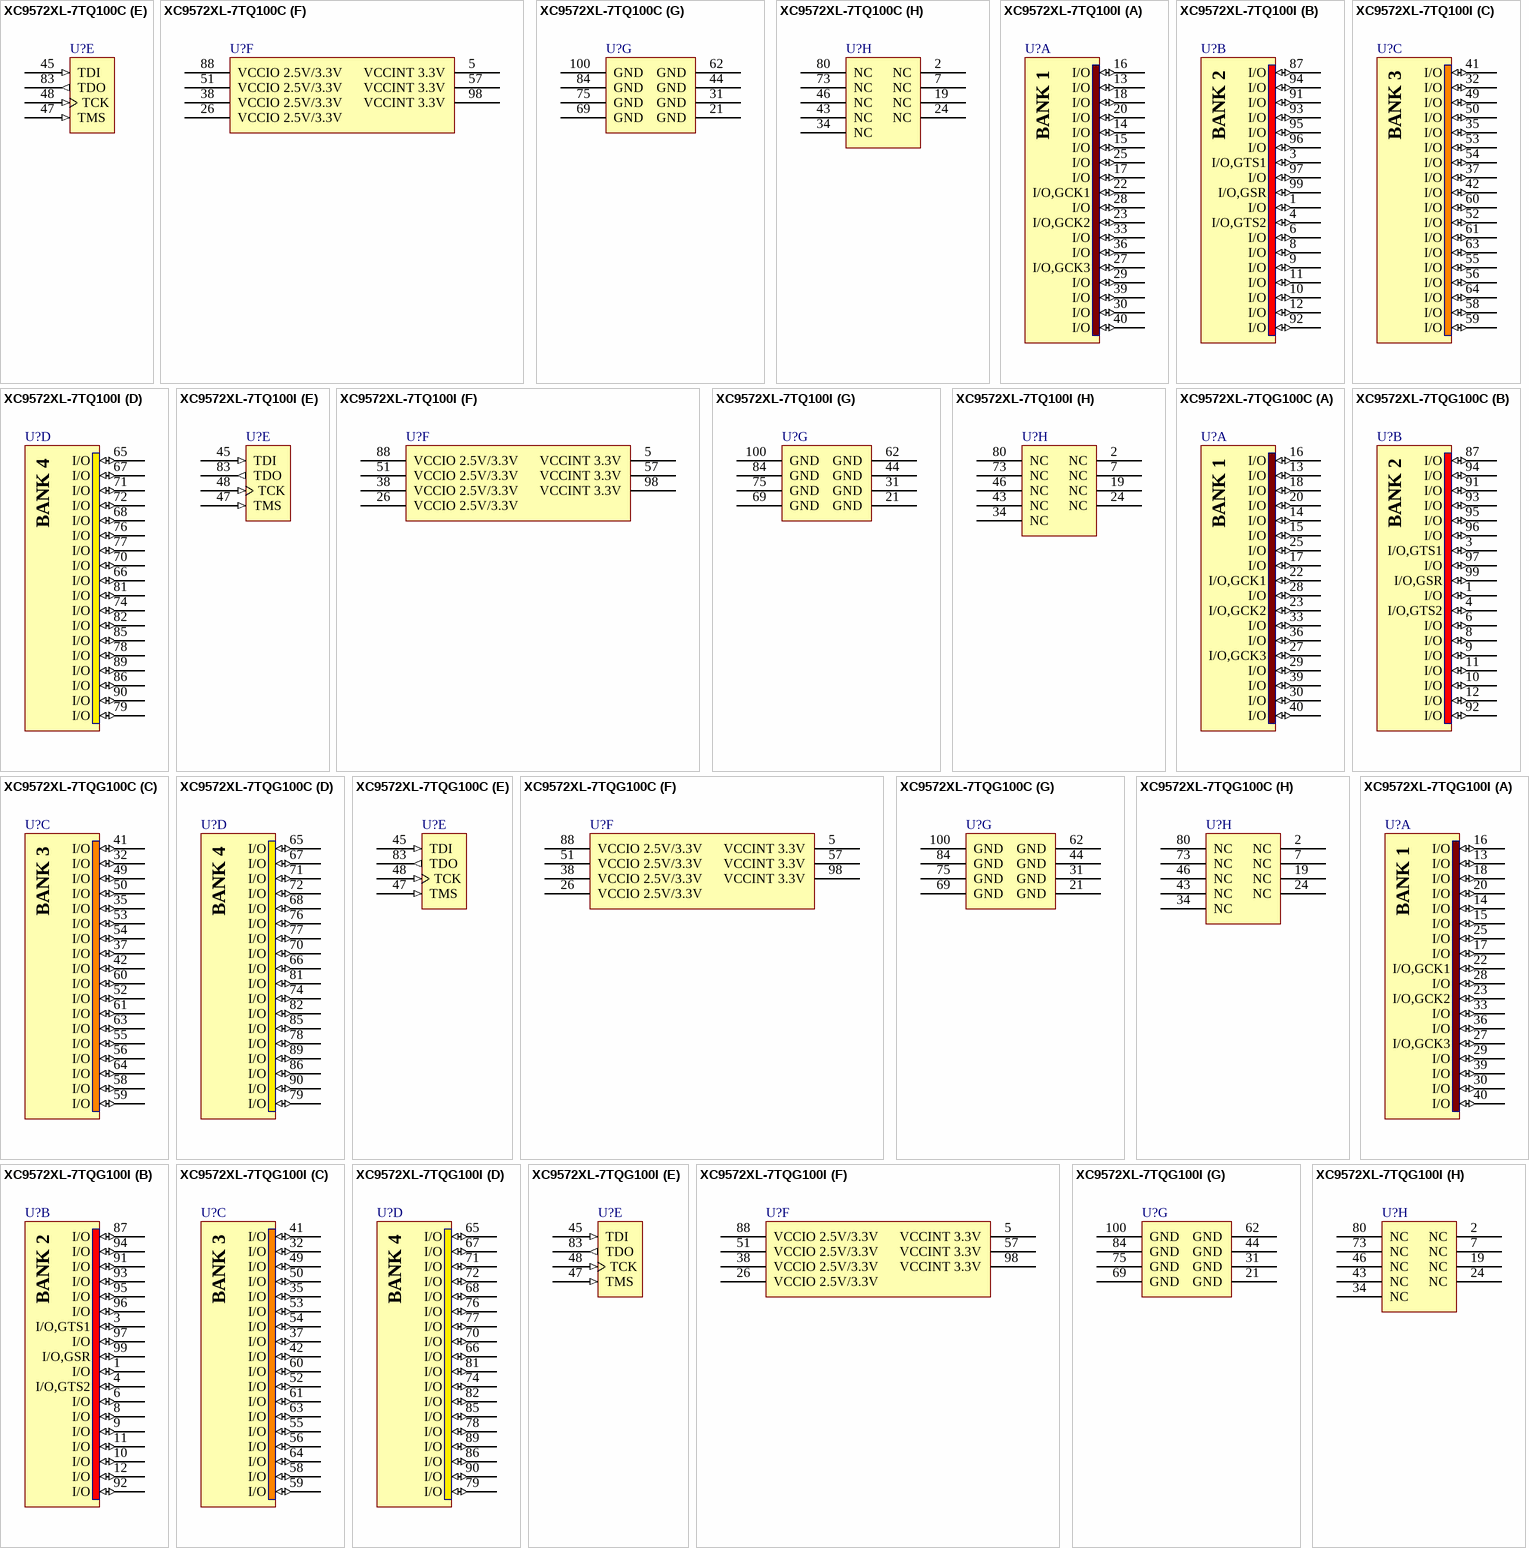
[diagram p12: symbols XC9572XL-7TQ100C to XC9572XL-7TQG100I]

## XC9572XL-7TQ100C
designator U?
FastFLASH XC900XL, 3.3V High-Performance 72 Macrocell CPLD, 72 User I/Os, 100-Pin TQFP, Speed Grade 7, Commercial Grade; Published: 17-Jul-2002; LatestRevisionDate: 18-Nov-2009; LatestRevisionNote: Updated to datasheet version 2.5 May-2009.; DatasheetVersion: ver2.0 Apr-2007; PackageVersion: ver1.2, Jun-2004; PackageReference: TQ100; Publisher: Altium Limited; PackageDescription: 100-Pin Thin Quad Flat Pack (TQ100); Supplier 1: Digi-Key; Supplier Part Number 1: 122-1271-ND; ComponentLink1Description: XC9572XL Datasheet; ComponentLink1URL: http://www.xilinx.com/support/documentation/data_sheets/ds057.pdf; ComponentLink2Description: TQ100 Package Drawing; ComponentLink2URL: http://www.xilinx.com/support/documentation/package_specs/tq100.pdf; ComponentLink3Description: XC9500XL Documents; ComponentLink3URL: http://www.xilinx.com/support/documentation/xc9500xl.htm; ComponentLink4Description: Xilinx.com Home; ComponentLink4URL: http://www.xilinx.com
footprint TQ100_N (Thin QFP, 100-Leads, Body 14x14mm, Pitch 0.5mm, IPC Medium Density)
footprint TQ100_L (Thin QFP, 100-Leads, Body 14x14mm, Pitch 0.5mm, IPC High Density)
footprint TQ100_M (Thin QFP, 100-Leads, Body 14x14mm, Pitch 0.5mm, IPC Low Density)
signal-integrity model XC9572XL_TQ100 (XC9500XL)
part A pins: 13 I/O (io), 14 I/O (io), 15 I/O (io), 16 I/O (io), 17 I/O (io), 18 I/O (io), 20 I/O (io), 22 I/O,GCK1 (io), 23 I/O,GCK2 (io), 25 I/O (io), 27 I/O,GCK3 (io), 28 I/O (io), 29 I/O (io), 30 I/O (io), 33 I/O (io), 36 I/O (io), 39 I/O (io), 40 I/O (io)
part B pins: 1 I/O (io), 3 I/O,GTS1 (io), 4 I/O,GTS2 (io), 6 I/O (io), 8 I/O (io), 9 I/O (io), 10 I/O (io), 11 I/O (io), 12 I/O (io), 87 I/O (io), 91 I/O (io), 92 I/O (io), 93 I/O (io), 94 I/O (io), 95 I/O (io), 96 I/O (io), 97 I/O (io), 99 I/O,GSR (io)
part C pins: 32 I/O (io), 35 I/O (io), 37 I/O (io), 41 I/O (io), 42 I/O (io), 49 I/O (io), 50 I/O (io), 52 I/O (io), 53 I/O (io), 54 I/O (io), 55 I/O (io), 56 I/O (io), 58 I/O (io), 59 I/O (io), 60 I/O (io), 61 I/O (io), 63 I/O (io), 64 I/O (io)
part D pins: 65 I/O (io), 66 I/O (io), 67 I/O (io), 68 I/O (io), 70 I/O (io), 71 I/O (io), 72 I/O (io), 74 I/O (io), 76 I/O (io), 77 I/O (io), 78 I/O (io), 79 I/O (io), 81 I/O (io), 82 I/O (io), 85 I/O (io), 86 I/O (io), 89 I/O (io), 90 I/O (io)
part E pins: 45 TDI (in), 47 TMS (in), 48 TCK (in), 83 TDO (out)
part F pins: 5 VCCINT 3.3V (power), 26 VCCIO 2.5V/3.3V (power), 38 VCCIO 2.5V/3.3V (power), 51 VCCIO 2.5V/3.3V (power), 57 VCCINT 3.3V (power), 88 VCCIO 2.5V/3.3V (power), 98 VCCINT 3.3V (power)
part G pins: 21 GND (power), 31 GND (power), 44 GND (power), 62 GND (power), 69 GND (power), 75 GND (power), 84 GND (power), 100 GND (power)
part H pins: 2 NC, 7 NC, 19 NC, 24 NC, 34 NC, 43 NC, 46 NC, 73 NC, 80 NC
part A text: BANK 1
part B text: BANK 2
part C text: BANK 3
part D text: BANK 4

## XC9572XL-7TQ100I
designator U?
FastFLASH XC900XL, 3.3V High-Performance 72 Macrocell CPLD, 72 User I/Os, 100-Pin TQFP, Speed Grade 7, Industrial Grade; Published: 17-Jul-2002; LatestRevisionDate: 18-Nov-2009; LatestRevisionNote: Updated to datasheet version 2.5 May-2009.; DatasheetVersion: ver2.0 Apr-2007; PackageVersion: ver1.2, Jun-2004; PackageReference: TQ100; Publisher: Altium Limited; PackageDescription: 100-Pin Thin Quad Flat Pack (TQ100); Supplier 1: Digi-Key; Supplier Part Number 1: XC9572XL-7TQ100I-ND; ComponentLink1Description: XC9572XL Datasheet; ComponentLink1URL: http://www.xilinx.com/support/documentation/data_sheets/ds057.pdf; ComponentLink2Description: TQ100 Package Drawing; ComponentLink2URL: http://www.xilinx.com/support/documentation/package_specs/tq100.pdf; ComponentLink3Description: XC9500XL Documents; ComponentLink3URL: http://www.xilinx.com/support/documentation/xc9500xl.htm; ComponentLink4Description: Xilinx.com Home; ComponentLink4URL: http://www.xilinx.com
footprint TQ100_N (Thin QFP, 100-Leads, Body 14x14mm, Pitch 0.5mm, IPC Medium Density)
footprint TQ100_L (Thin QFP, 100-Leads, Body 14x14mm, Pitch 0.5mm, IPC High Density)
footprint TQ100_M (Thin QFP, 100-Leads, Body 14x14mm, Pitch 0.5mm, IPC Low Density)
signal-integrity model XC9572XL_TQ100 (XC9500XL)
part A pins: 13 I/O (io), 14 I/O (io), 15 I/O (io), 16 I/O (io), 17 I/O (io), 18 I/O (io), 20 I/O (io), 22 I/O,GCK1 (io), 23 I/O,GCK2 (io), 25 I/O (io), 27 I/O,GCK3 (io), 28 I/O (io), 29 I/O (io), 30 I/O (io), 33 I/O (io), 36 I/O (io), 39 I/O (io), 40 I/O (io)
part B pins: 1 I/O (io), 3 I/O,GTS1 (io), 4 I/O,GTS2 (io), 6 I/O (io), 8 I/O (io), 9 I/O (io), 10 I/O (io), 11 I/O (io), 12 I/O (io), 87 I/O (io), 91 I/O (io), 92 I/O (io), 93 I/O (io), 94 I/O (io), 95 I/O (io), 96 I/O (io), 97 I/O (io), 99 I/O,GSR (io)
part C pins: 32 I/O (io), 35 I/O (io), 37 I/O (io), 41 I/O (io), 42 I/O (io), 49 I/O (io), 50 I/O (io), 52 I/O (io), 53 I/O (io), 54 I/O (io), 55 I/O (io), 56 I/O (io), 58 I/O (io), 59 I/O (io), 60 I/O (io), 61 I/O (io), 63 I/O (io), 64 I/O (io)
part D pins: 65 I/O (io), 66 I/O (io), 67 I/O (io), 68 I/O (io), 70 I/O (io), 71 I/O (io), 72 I/O (io), 74 I/O (io), 76 I/O (io), 77 I/O (io), 78 I/O (io), 79 I/O (io), 81 I/O (io), 82 I/O (io), 85 I/O (io), 86 I/O (io), 89 I/O (io), 90 I/O (io)
part E pins: 45 TDI (in), 47 TMS (in), 48 TCK (in), 83 TDO (out)
part F pins: 5 VCCINT 3.3V (power), 26 VCCIO 2.5V/3.3V (power), 38 VCCIO 2.5V/3.3V (power), 51 VCCIO 2.5V/3.3V (power), 57 VCCINT 3.3V (power), 88 VCCIO 2.5V/3.3V (power), 98 VCCINT 3.3V (power)
part G pins: 21 GND (power), 31 GND (power), 44 GND (power), 62 GND (power), 69 GND (power), 75 GND (power), 84 GND (power), 100 GND (power)
part H pins: 2 NC, 7 NC, 19 NC, 24 NC, 34 NC, 43 NC, 46 NC, 73 NC, 80 NC
part A text: BANK 1
part B text: BANK 2
part C text: BANK 3
part D text: BANK 4

## XC9572XL-7TQG100C
designator U?
FastFLASH XC900XL, 3.3V High-Performance 72 Macrocell CPLD, 72 User I/Os, 100-Pin TQFP, Speed Grade 7, Commercial Grade, Pb-Free; Published: 8-Sep-2006; LatestRevisionDate: 18-Nov-2009; LatestRevisionNote: Updated to datasheet version 2.5 May-2009.; DatasheetVersion: ver2.0 Apr-2007; PackageVersion: ver1.2, Jun-2004; PackageReference: TQG100; Publisher: Altium Limited; PackageDescription: 100-Pin Thin Quad Flat Pack (TQG100) - Pb-Free; Supplier 1: Digi-Key; Supplier Part Number 1: 122-1389-ND; ComponentLink1Description: XC9572XL Datasheet; ComponentLink1URL: http://www.xilinx.com/support/documentation/data_sheets/ds057.pdf; ComponentLink2Description: TQG100 Package Drawing; ComponentLink2URL: http://www.xilinx.com/support/documentation/package_specs/tq100.pdf; ComponentLink3Description: XC9500XL Documents; ComponentLink3URL: http://www.xilinx.com/support/documentation/xc9500xl.htm; ComponentLink4Description: Xilinx.com Home; ComponentLink4URL: http://www.xilinx.com
footprint TQG100_N (Thin QFP, 100-Leads, Body 14x14mm, Pitch 0.5mm, IPC Medium Density)
footprint TQG100_L (Thin QFP, 100-Leads, Body 14x14mm, Pitch 0.5mm, IPC High Density)
footprint TQG100_M (Thin QFP, 100-Leads, Body 14x14mm, Pitch 0.5mm, IPC Low Density)
signal-integrity model XC9572XL_TQ100 (XC9500XL)
part A pins: 13 I/O (io), 14 I/O (io), 15 I/O (io), 16 I/O (io), 17 I/O (io), 18 I/O (io), 20 I/O (io), 22 I/O,GCK1 (io), 23 I/O,GCK2 (io), 25 I/O (io), 27 I/O,GCK3 (io), 28 I/O (io), 29 I/O (io), 30 I/O (io), 33 I/O (io), 36 I/O (io), 39 I/O (io), 40 I/O (io)
part B pins: 1 I/O (io), 3 I/O,GTS1 (io), 4 I/O,GTS2 (io), 6 I/O (io), 8 I/O (io), 9 I/O (io), 10 I/O (io), 11 I/O (io), 12 I/O (io), 87 I/O (io), 91 I/O (io), 92 I/O (io), 93 I/O (io), 94 I/O (io), 95 I/O (io), 96 I/O (io), 97 I/O (io), 99 I/O,GSR (io)
part C pins: 32 I/O (io), 35 I/O (io), 37 I/O (io), 41 I/O (io), 42 I/O (io), 49 I/O (io), 50 I/O (io), 52 I/O (io), 53 I/O (io), 54 I/O (io), 55 I/O (io), 56 I/O (io), 58 I/O (io), 59 I/O (io), 60 I/O (io), 61 I/O (io), 63 I/O (io), 64 I/O (io)
part D pins: 65 I/O (io), 66 I/O (io), 67 I/O (io), 68 I/O (io), 70 I/O (io), 71 I/O (io), 72 I/O (io), 74 I/O (io), 76 I/O (io), 77 I/O (io), 78 I/O (io), 79 I/O (io), 81 I/O (io), 82 I/O (io), 85 I/O (io), 86 I/O (io), 89 I/O (io), 90 I/O (io)
part E pins: 45 TDI (in), 47 TMS (in), 48 TCK (in), 83 TDO (out)
part F pins: 5 VCCINT 3.3V (power), 26 VCCIO 2.5V/3.3V (power), 38 VCCIO 2.5V/3.3V (power), 51 VCCIO 2.5V/3.3V (power), 57 VCCINT 3.3V (power), 88 VCCIO 2.5V/3.3V (power), 98 VCCINT 3.3V (power)
part G pins: 21 GND (power), 31 GND (power), 44 GND (power), 62 GND (power), 69 GND (power), 75 GND (power), 84 GND (power), 100 GND (power)
part H pins: 2 NC, 7 NC, 19 NC, 24 NC, 34 NC, 43 NC, 46 NC, 73 NC, 80 NC
part A text: BANK 1
part B text: BANK 2
part C text: BANK 3
part D text: BANK 4

## XC9572XL-7TQG100I
designator U?
FastFLASH XC900XL, 3.3V High-Performance 72 Macrocell CPLD, 72 User I/Os, 100-Pin TQFP, Speed Grade 7, Industrial Grade, Pb-Free; Published: 8-Sep-2006; LatestRevisionDate: 18-Nov-2009; LatestRevisionNote: Updated to datasheet version 2.5 May-2009.; DatasheetVersion: ver2.0 Apr-2007; PackageVersion: ver1.2, Jun-2004; PackageReference: TQG100; Publisher: Altium Limited; PackageDescription: 100-Pin Thin Quad Flat Pack (TQG100) - Pb-Free; Supplier 1: Digi-Key; Supplier Part Number 1: XC9572XL-7TQG100I-ND; ComponentLink1Description: XC9572XL Datasheet; ComponentLink1URL: http://www.xilinx.com/support/documentation/data_sheets/ds057.pdf; ComponentLink2Description: TQG100 Package Drawing; ComponentLink2URL: http://www.xilinx.com/support/documentation/package_specs/tq100.pdf; ComponentLink3Description: XC9500XL Documents; ComponentLink3URL: http://www.xilinx.com/support/documentation/xc9500xl.htm; ComponentLink4Description: Xilinx.com Home; ComponentLink4URL: http://www.xilinx.com
footprint TQG100_N (Thin QFP, 100-Leads, Body 14x14mm, Pitch 0.5mm, IPC Medium Density)
footprint TQG100_L (Thin QFP, 100-Leads, Body 14x14mm, Pitch 0.5mm, IPC High Density)
footprint TQG100_M (Thin QFP, 100-Leads, Body 14x14mm, Pitch 0.5mm, IPC Low Density)
signal-integrity model XC9572XL_TQ100 (XC9500XL)
part A pins: 13 I/O (io), 14 I/O (io), 15 I/O (io), 16 I/O (io), 17 I/O (io), 18 I/O (io), 20 I/O (io), 22 I/O,GCK1 (io), 23 I/O,GCK2 (io), 25 I/O (io), 27 I/O,GCK3 (io), 28 I/O (io), 29 I/O (io), 30 I/O (io), 33 I/O (io), 36 I/O (io), 39 I/O (io), 40 I/O (io)
part B pins: 1 I/O (io), 3 I/O,GTS1 (io), 4 I/O,GTS2 (io), 6 I/O (io), 8 I/O (io), 9 I/O (io), 10 I/O (io), 11 I/O (io), 12 I/O (io), 87 I/O (io), 91 I/O (io), 92 I/O (io), 93 I/O (io), 94 I/O (io), 95 I/O (io), 96 I/O (io), 97 I/O (io), 99 I/O,GSR (io)
part C pins: 32 I/O (io), 35 I/O (io), 37 I/O (io), 41 I/O (io), 42 I/O (io), 49 I/O (io), 50 I/O (io), 52 I/O (io), 53 I/O (io), 54 I/O (io), 55 I/O (io), 56 I/O (io), 58 I/O (io), 59 I/O (io), 60 I/O (io), 61 I/O (io), 63 I/O (io), 64 I/O (io)
part D pins: 65 I/O (io), 66 I/O (io), 67 I/O (io), 68 I/O (io), 70 I/O (io), 71 I/O (io), 72 I/O (io), 74 I/O (io), 76 I/O (io), 77 I/O (io), 78 I/O (io), 79 I/O (io), 81 I/O (io), 82 I/O (io), 85 I/O (io), 86 I/O (io), 89 I/O (io), 90 I/O (io)
part E pins: 45 TDI (in), 47 TMS (in), 48 TCK (in), 83 TDO (out)
part F pins: 5 VCCINT 3.3V (power), 26 VCCIO 2.5V/3.3V (power), 38 VCCIO 2.5V/3.3V (power), 51 VCCIO 2.5V/3.3V (power), 57 VCCINT 3.3V (power), 88 VCCIO 2.5V/3.3V (power), 98 VCCINT 3.3V (power)
part G pins: 21 GND (power), 31 GND (power), 44 GND (power), 62 GND (power), 69 GND (power), 75 GND (power), 84 GND (power), 100 GND (power)
part H pins: 2 NC, 7 NC, 19 NC, 24 NC, 34 NC, 43 NC, 46 NC, 73 NC, 80 NC
part A text: BANK 1
part B text: BANK 2
part C text: BANK 3
part D text: BANK 4

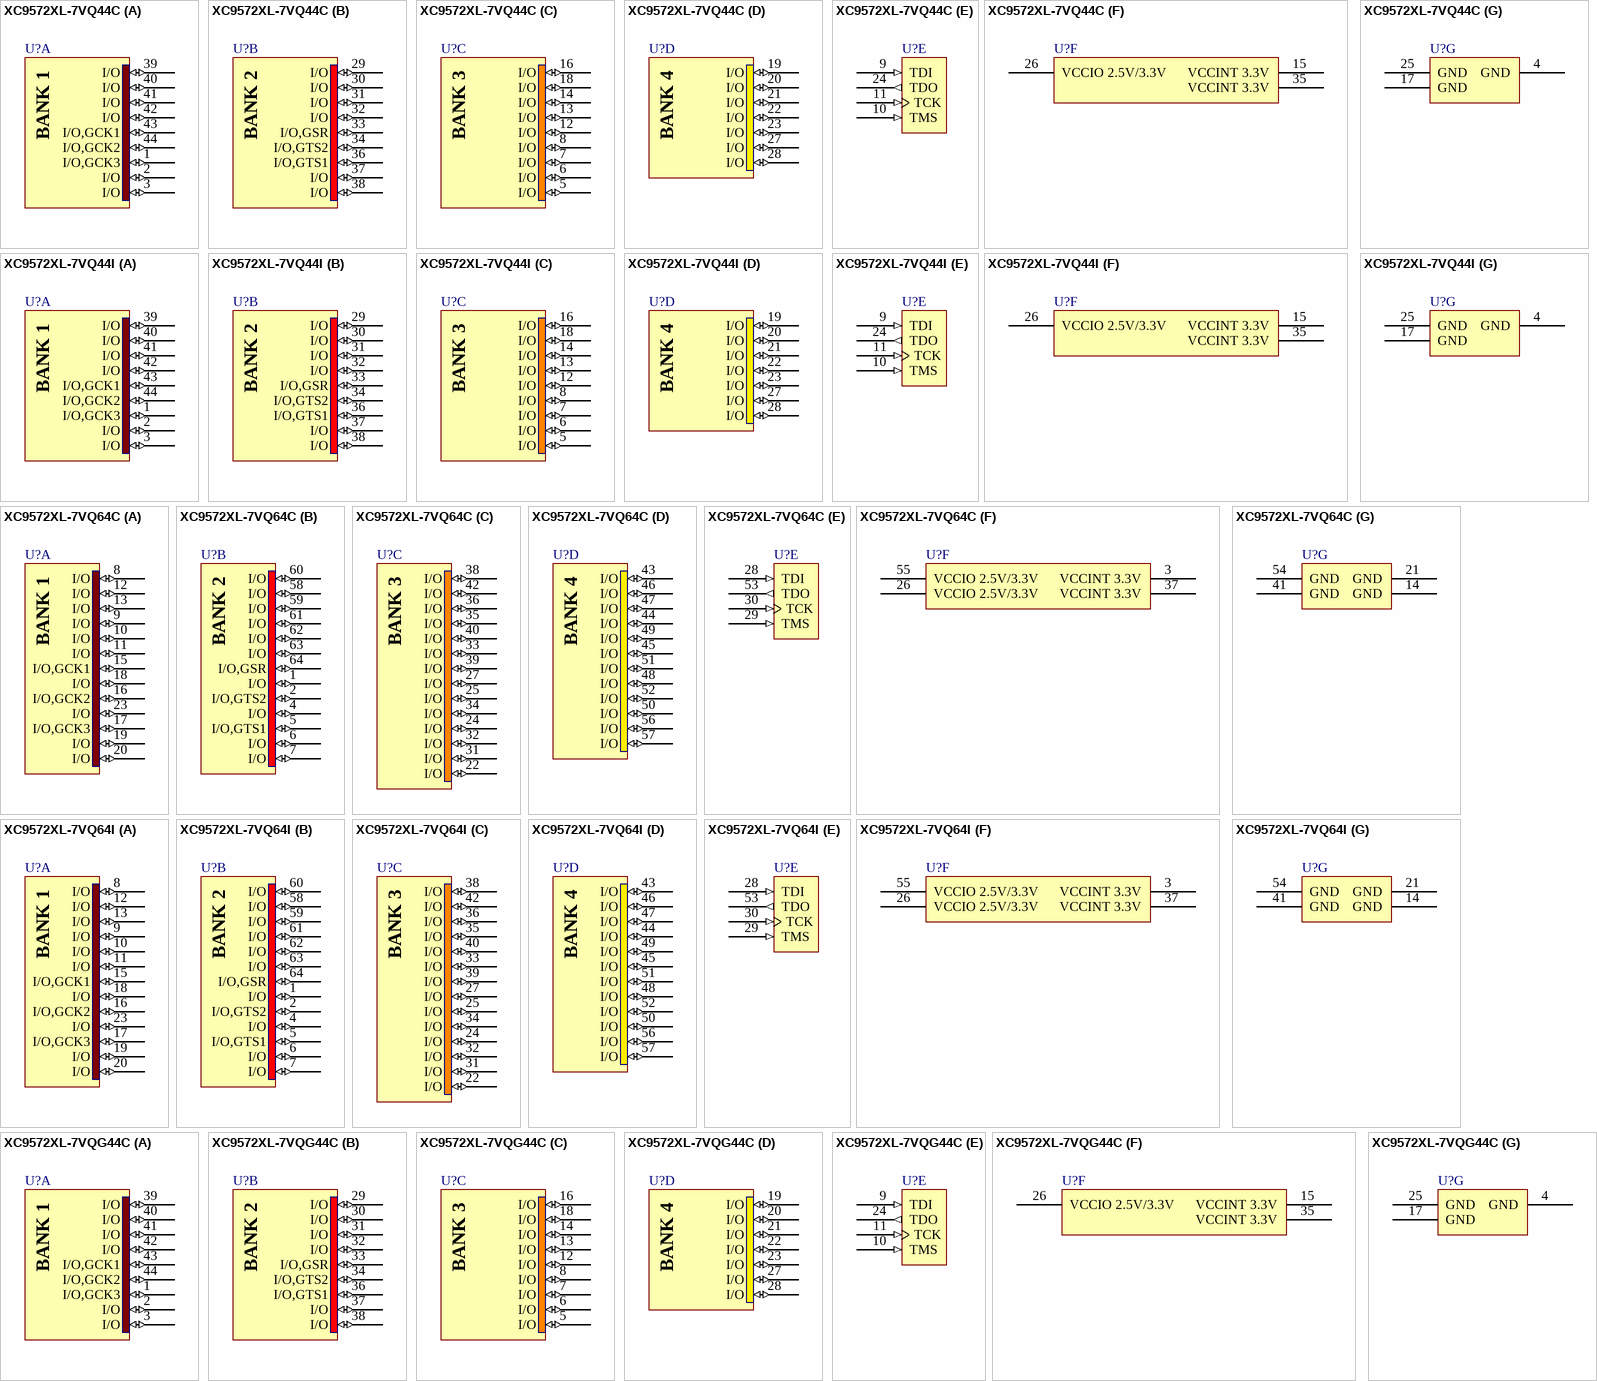
[diagram p13: symbols XC9572XL-7VQ44C to XC9572XL-7VQG44C]

## XC9572XL-7VQ44C
designator U?
FastFLASH XC900XL, 3.3V High-Performance 72 Macrocell CPLD, 34 User I/Os, 44-Pin VQFP, Speed Grade 7, Commercial Grade; Published: 17-Jul-2002; LatestRevisionDate: 18-Nov-2009; LatestRevisionNote: Updated to datasheet version 2.5 May-2009.; DatasheetVersion: ver2.0 Apr-2007; PackageVersion: ver1.2, Jun-2004; PackageReference: VQ44; Publisher: Altium Limited; PackageDescription: 44-Pin Very Thin Quad Flat Pack (VQ44); Supplier 1: Digi-Key; Supplier Part Number 1: XC9572XL-7VQ44C-ND; Code_JEDEC: MS-026-ACB; ComponentLink1Description: XC9572XL Datasheet; ComponentLink1URL: http://www.xilinx.com/support/documentation/data_sheets/ds057.pdf; ComponentLink2Description: VQ44 Package Drawing; ComponentLink2URL: http://www.xilinx.com/support/documentation/package_specs/vq44.pdf; ComponentLink3Description: XC9500XL Documents; ComponentLink3URL: http://www.xilinx.com/support/documentation/xc9500xl.htm; ComponentLink4Description: Xilinx.com Home; ComponentLink4URL: http://www.xilinx.com
footprint VQ44_N (Thin QFP, 44-Leads, Body 10x10mm, Pitch 0.8mm, IPC Medium Density)
footprint VQ44_L (Thin QFP, 44-Leads, Body 10x10mm, Pitch 0.8mm, IPC High Density)
footprint VQ44_M (Thin QFP, 44-Leads, Body 10x10mm, Pitch 0.8mm, IPC Low Density)
signal-integrity model XC9572XL_VQ44 (XC9500XL)
part A pins: 1 I/O,GCK3 (io), 2 I/O (io), 3 I/O (io), 39 I/O (io), 40 I/O (io), 41 I/O (io), 42 I/O (io), 43 I/O,GCK1 (io), 44 I/O,GCK2 (io)
part B pins: 29 I/O (io), 30 I/O (io), 31 I/O (io), 32 I/O (io), 33 I/O,GSR (io), 34 I/O,GTS2 (io), 36 I/O,GTS1 (io), 37 I/O (io), 38 I/O (io)
part C pins: 5 I/O (io), 6 I/O (io), 7 I/O (io), 8 I/O (io), 12 I/O (io), 13 I/O (io), 14 I/O (io), 16 I/O (io), 18 I/O (io)
part D pins: 19 I/O (io), 20 I/O (io), 21 I/O (io), 22 I/O (io), 23 I/O (io), 27 I/O (io), 28 I/O (io)
part E pins: 9 TDI (in), 10 TMS (in), 11 TCK (in), 24 TDO (out)
part F pins: 15 VCCINT 3.3V (power), 26 VCCIO 2.5V/3.3V (power), 35 VCCINT 3.3V (power)
part G pins: 4 GND (power), 17 GND (power), 25 GND (power)
part A text: BANK 1
part B text: BANK 2
part C text: BANK 3
part D text: BANK 4

## XC9572XL-7VQ44I
designator U?
FastFLASH XC900XL, 3.3V High-Performance 72 Macrocell CPLD, 34 User I/Os, 44-Pin VQFP, Speed Grade 7, Industrial Grade; Published: 17-Jul-2002; LatestRevisionDate: 18-Nov-2009; LatestRevisionNote: Updated to datasheet version 2.5 May-2009.; DatasheetVersion: ver2.0 Apr-2007; PackageVersion: ver1.2, Jun-2004; PackageReference: VQ44; Publisher: Altium Limited; PackageDescription: 44-Pin Very Thin Quad Flat Pack (VQ44); Code_JEDEC: MS-026-ACB; ComponentLink1Description: XC9572XL Datasheet; ComponentLink1URL: http://www.xilinx.com/support/documentation/data_sheets/ds057.pdf; ComponentLink2Description: VQ44 Package Drawing; ComponentLink2URL: http://www.xilinx.com/support/documentation/package_specs/vq44.pdf; ComponentLink3Description: XC9500XL Documents; ComponentLink3URL: http://www.xilinx.com/support/documentation/xc9500xl.htm; ComponentLink4Description: Xilinx.com Home; ComponentLink4URL: http://www.xilinx.com
footprint VQ44_N (Thin QFP, 44-Leads, Body 10x10mm, Pitch 0.8mm, IPC Medium Density)
footprint VQ44_L (Thin QFP, 44-Leads, Body 10x10mm, Pitch 0.8mm, IPC High Density)
footprint VQ44_M (Thin QFP, 44-Leads, Body 10x10mm, Pitch 0.8mm, IPC Low Density)
signal-integrity model XC9572XL_VQ44 (XC9500XL)
part A pins: 1 I/O,GCK3 (io), 2 I/O (io), 3 I/O (io), 39 I/O (io), 40 I/O (io), 41 I/O (io), 42 I/O (io), 43 I/O,GCK1 (io), 44 I/O,GCK2 (io)
part B pins: 29 I/O (io), 30 I/O (io), 31 I/O (io), 32 I/O (io), 33 I/O,GSR (io), 34 I/O,GTS2 (io), 36 I/O,GTS1 (io), 37 I/O (io), 38 I/O (io)
part C pins: 5 I/O (io), 6 I/O (io), 7 I/O (io), 8 I/O (io), 12 I/O (io), 13 I/O (io), 14 I/O (io), 16 I/O (io), 18 I/O (io)
part D pins: 19 I/O (io), 20 I/O (io), 21 I/O (io), 22 I/O (io), 23 I/O (io), 27 I/O (io), 28 I/O (io)
part E pins: 9 TDI (in), 10 TMS (in), 11 TCK (in), 24 TDO (out)
part F pins: 15 VCCINT 3.3V (power), 26 VCCIO 2.5V/3.3V (power), 35 VCCINT 3.3V (power)
part G pins: 4 GND (power), 17 GND (power), 25 GND (power)
part A text: BANK 1
part B text: BANK 2
part C text: BANK 3
part D text: BANK 4

## XC9572XL-7VQ64C
designator U?
FastFLASH XC900XL, 3.3V High-Performance 72 Macrocell CPLD, 52 User I/Os, 64-Pin VQFP, Speed Grade 7, Commercial Grade; Published: 17-Jul-2002; LatestRevisionDate: 18-Nov-2009; LatestRevisionNote: Updated to datasheet version 2.5 May-2009.; DatasheetVersion: ver2.0 Apr-2007; PackageVersion: ver1.2, Jun-2004; PackageReference: VQ64; Publisher: Altium Limited; PackageDescription: 64-Pin Very Thin Quad Flat Pack (VQ64); Supplier 1: Digi-Key; Supplier Part Number 1: XC9572XL-7VQ64C-ND; Code_JEDEC: MS-026-ACD; ComponentLink1Description: XC9572XL Datasheet; ComponentLink1URL: http://www.xilinx.com/support/documentation/data_sheets/ds057.pdf; ComponentLink2Description: VQ64 Package Drawing; ComponentLink2URL: http://www.xilinx.com/support/documentation/package_specs/vq64.pdf; ComponentLink3Description: XC9500XL Documents; ComponentLink3URL: http://www.xilinx.com/support/documentation/xc9500xl.htm; ComponentLink4Description: Xilinx.com Home; ComponentLink4URL: http://www.xilinx.com
footprint VQ64_N (Thin QFP, 64-Leads, Body 10x10mm, Pitch 0.5mm, IPC Medium Density)
footprint VQ64_L (Thin QFP, 64-Leads, Body 10x10mm, Pitch 0.5mm, IPC High Density)
footprint VQ64_M (Thin QFP, 64-Leads, Body 10x10mm, Pitch 0.5mm, IPC Low Density)
signal-integrity model XC9572XL_VQ64 (XC9500XL)
part A pins: 8 I/O (io), 9 I/O (io), 10 I/O (io), 11 I/O (io), 12 I/O (io), 13 I/O (io), 15 I/O,GCK1 (io), 16 I/O,GCK2 (io), 17 I/O,GCK3 (io), 18 I/O (io), 19 I/O (io), 20 I/O (io), 23 I/O (io)
part B pins: 1 I/O (io), 2 I/O,GTS2 (io), 4 I/O (io), 5 I/O,GTS1 (io), 6 I/O (io), 7 I/O (io), 58 I/O (io), 59 I/O (io), 60 I/O (io), 61 I/O (io), 62 I/O (io), 63 I/O (io), 64 I/O,GSR (io)
part C pins: 22 I/O (io), 24 I/O (io), 25 I/O (io), 27 I/O (io), 31 I/O (io), 32 I/O (io), 33 I/O (io), 34 I/O (io), 35 I/O (io), 36 I/O (io), 38 I/O (io), 39 I/O (io), 40 I/O (io), 42 I/O (io)
part D pins: 43 I/O (io), 44 I/O (io), 45 I/O (io), 46 I/O (io), 47 I/O (io), 48 I/O (io), 49 I/O (io), 50 I/O (io), 51 I/O (io), 52 I/O (io), 56 I/O (io), 57 I/O (io)
part E pins: 28 TDI (in), 29 TMS (in), 30 TCK (in), 53 TDO (out)
part F pins: 3 VCCINT 3.3V (power), 26 VCCIO 2.5V/3.3V (power), 37 VCCINT 3.3V (power), 55 VCCIO 2.5V/3.3V (power)
part G pins: 14 GND (power), 21 GND (power), 41 GND (power), 54 GND (power)
part A text: BANK 1
part B text: BANK 2
part C text: BANK 3
part D text: BANK 4

## XC9572XL-7VQ64I
designator U?
FastFLASH XC900XL, 3.3V High-Performance 72 Macrocell CPLD, 52 User I/Os, 64-Pin VQFP, Speed Grade 7, Industrial Grade; Published: 17-Jul-2002; LatestRevisionDate: 18-Nov-2009; LatestRevisionNote: Updated to datasheet version 2.5 May-2009.; DatasheetVersion: ver2.0 Apr-2007; PackageVersion: ver1.2, Jun-2004; PackageReference: VQ64; Publisher: Altium Limited; PackageDescription: 64-Pin Very Thin Quad Flat Pack (VQ64); Supplier 1: Digi-Key; Supplier Part Number 1: XC9572XL-7VQ64I-ND; Code_JEDEC: MS-026-ACD; ComponentLink1Description: XC9572XL Datasheet; ComponentLink1URL: http://www.xilinx.com/support/documentation/data_sheets/ds057.pdf; ComponentLink2Description: VQ64 Package Drawing; ComponentLink2URL: http://www.xilinx.com/support/documentation/package_specs/vq64.pdf; ComponentLink3Description: XC9500XL Documents; ComponentLink3URL: http://www.xilinx.com/support/documentation/xc9500xl.htm; ComponentLink4Description: Xilinx.com Home; ComponentLink4URL: http://www.xilinx.com
footprint VQ64_N (Thin QFP, 64-Leads, Body 10x10mm, Pitch 0.5mm, IPC Medium Density)
footprint VQ64_L (Thin QFP, 64-Leads, Body 10x10mm, Pitch 0.5mm, IPC High Density)
footprint VQ64_M (Thin QFP, 64-Leads, Body 10x10mm, Pitch 0.5mm, IPC Low Density)
signal-integrity model XC9572XL_VQ64 (XC9500XL)
part A pins: 8 I/O (io), 9 I/O (io), 10 I/O (io), 11 I/O (io), 12 I/O (io), 13 I/O (io), 15 I/O,GCK1 (io), 16 I/O,GCK2 (io), 17 I/O,GCK3 (io), 18 I/O (io), 19 I/O (io), 20 I/O (io), 23 I/O (io)
part B pins: 1 I/O (io), 2 I/O,GTS2 (io), 4 I/O (io), 5 I/O,GTS1 (io), 6 I/O (io), 7 I/O (io), 58 I/O (io), 59 I/O (io), 60 I/O (io), 61 I/O (io), 62 I/O (io), 63 I/O (io), 64 I/O,GSR (io)
part C pins: 22 I/O (io), 24 I/O (io), 25 I/O (io), 27 I/O (io), 31 I/O (io), 32 I/O (io), 33 I/O (io), 34 I/O (io), 35 I/O (io), 36 I/O (io), 38 I/O (io), 39 I/O (io), 40 I/O (io), 42 I/O (io)
part D pins: 43 I/O (io), 44 I/O (io), 45 I/O (io), 46 I/O (io), 47 I/O (io), 48 I/O (io), 49 I/O (io), 50 I/O (io), 51 I/O (io), 52 I/O (io), 56 I/O (io), 57 I/O (io)
part E pins: 28 TDI (in), 29 TMS (in), 30 TCK (in), 53 TDO (out)
part F pins: 3 VCCINT 3.3V (power), 26 VCCIO 2.5V/3.3V (power), 37 VCCINT 3.3V (power), 55 VCCIO 2.5V/3.3V (power)
part G pins: 14 GND (power), 21 GND (power), 41 GND (power), 54 GND (power)
part A text: BANK 1
part B text: BANK 2
part C text: BANK 3
part D text: BANK 4

## XC9572XL-7VQG44C
designator U?
FastFLASH XC900XL, 3.3V High-Performance 72 Macrocell CPLD, 34 User I/Os, 44-Pin VQFP, Speed Grade 7, Commercial Grade, Pb-Free; Published: 8-Sep-2006; LatestRevisionDate: 18-Nov-2009; LatestRevisionNote: Updated to datasheet version 2.5 May-2009.; DatasheetVersion: ver2.0 Apr-2007; PackageVersion: ver1.2, Jun-2004; PackageReference: VQG44; Publisher: Altium Limited; PackageDescription: 44-Pin Very Thin Quad Flat Pack (VQG44) - Pb-Free; Supplier 1: Digi-Key; Supplier Part Number 1: 122-1449-ND; Code_JEDEC: MS-026-ACB; ComponentLink1Description: XC9572XL Datasheet; ComponentLink1URL: http://www.xilinx.com/support/documentation/data_sheets/ds057.pdf; ComponentLink2Description: VQG44 Package Drawing; ComponentLink2URL: http://www.xilinx.com/support/documentation/package_specs/vq44.pdf; ComponentLink3Description: XC9500XL Documents; ComponentLink3URL: http://www.xilinx.com/support/documentation/xc9500xl.htm; ComponentLink4Description: Xilinx.com Home; ComponentLink4URL: http://www.xilinx.com
footprint VQG44_N (Thin QFP, 44-Leads, Body 10x10mm, Pitch 0.8mm, IPC Medium Density)
footprint VQG44_L (Thin QFP, 44-Leads, Body 10x10mm, Pitch 0.8mm, IPC High Density)
footprint VQG44_M (Thin QFP, 44-Leads, Body 10x10mm, Pitch 0.8mm, IPC Low Density)
signal-integrity model XC9572XL_VQ44 (XC9500XL)
part A pins: 1 I/O,GCK3 (io), 2 I/O (io), 3 I/O (io), 39 I/O (io), 40 I/O (io), 41 I/O (io), 42 I/O (io), 43 I/O,GCK1 (io), 44 I/O,GCK2 (io)
part B pins: 29 I/O (io), 30 I/O (io), 31 I/O (io), 32 I/O (io), 33 I/O,GSR (io), 34 I/O,GTS2 (io), 36 I/O,GTS1 (io), 37 I/O (io), 38 I/O (io)
part C pins: 5 I/O (io), 6 I/O (io), 7 I/O (io), 8 I/O (io), 12 I/O (io), 13 I/O (io), 14 I/O (io), 16 I/O (io), 18 I/O (io)
part D pins: 19 I/O (io), 20 I/O (io), 21 I/O (io), 22 I/O (io), 23 I/O (io), 27 I/O (io), 28 I/O (io)
part E pins: 9 TDI (in), 10 TMS (in), 11 TCK (in), 24 TDO (out)
part F pins: 15 VCCINT 3.3V (power), 26 VCCIO 2.5V/3.3V (power), 35 VCCINT 3.3V (power)
part G pins: 4 GND (power), 17 GND (power), 25 GND (power)
part A text: BANK 1
part B text: BANK 2
part C text: BANK 3
part D text: BANK 4

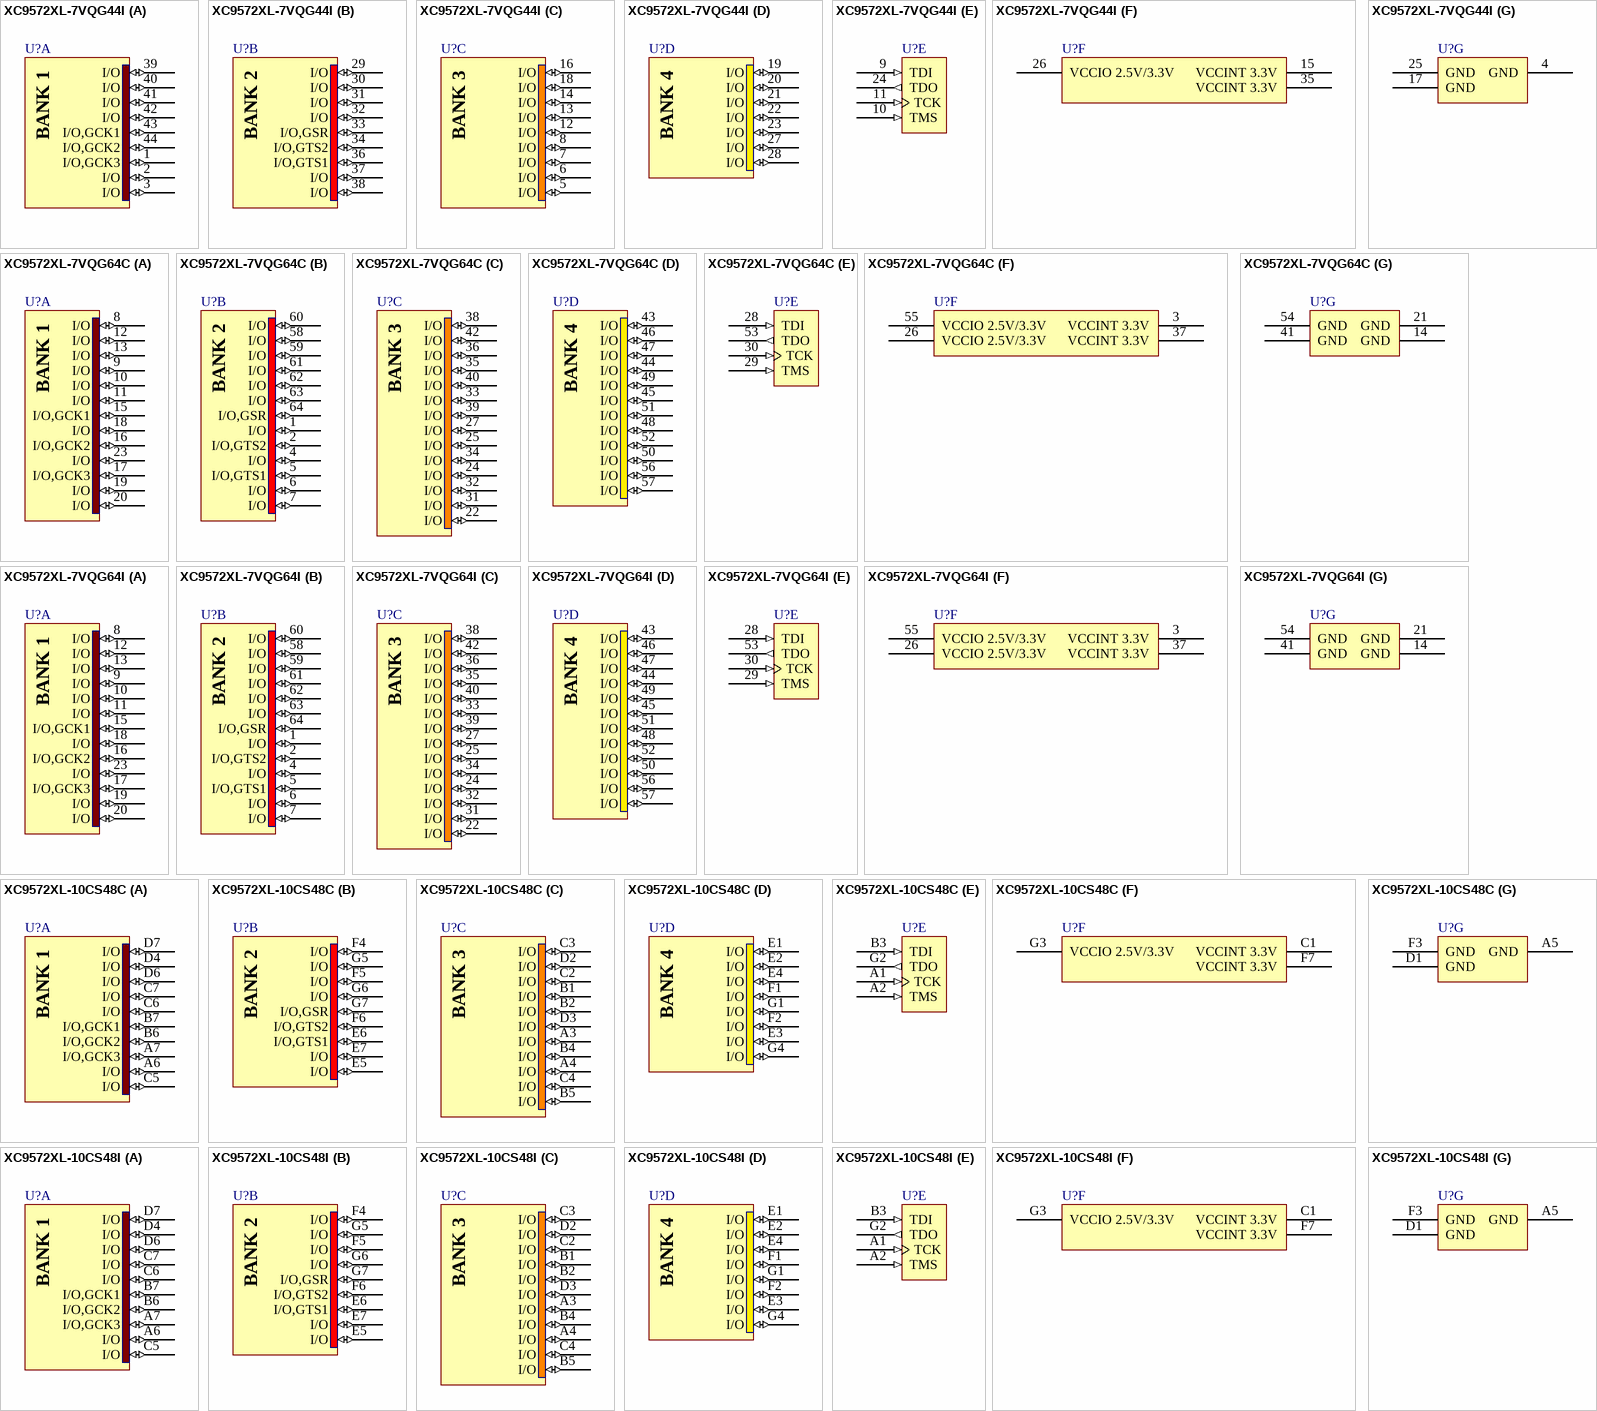
[diagram p14: symbols XC9572XL-7VQG44I to XC9572XL-10CS48I]

## XC9572XL-7VQG44I
designator U?
FastFLASH XC900XL, 3.3V High-Performance 72 Macrocell CPLD, 34 User I/Os, 44-Pin VQFP, Speed Grade 7, Industrial Grade, Pb-Free; Published: 8-Sep-2006; LatestRevisionDate: 18-Nov-2009; LatestRevisionNote: Updated to datasheet version 2.5 May-2009.; DatasheetVersion: ver2.0 Apr-2007; PackageVersion: ver1.2, Jun-2004; PackageReference: VQG44; Publisher: Altium Limited; PackageDescription: 44-Pin Very Thin Quad Flat Pack (VQG44) - Pb-Free; Supplier 1: Digi-Key; Supplier Part Number 1: XC9572XL-7VQG44I-ND; Code_JEDEC: MS-026-ACB; ComponentLink1Description: XC9572XL Datasheet; ComponentLink1URL: http://www.xilinx.com/support/documentation/data_sheets/ds057.pdf; ComponentLink2Description: VQG44 Package Drawing; ComponentLink2URL: http://www.xilinx.com/support/documentation/package_specs/vq44.pdf; ComponentLink3Description: XC9500XL Documents; ComponentLink3URL: http://www.xilinx.com/support/documentation/xc9500xl.htm; ComponentLink4Description: Xilinx.com Home; ComponentLink4URL: http://www.xilinx.com
footprint VQG44_N (Thin QFP, 44-Leads, Body 10x10mm, Pitch 0.8mm, IPC Medium Density)
footprint VQG44_L (Thin QFP, 44-Leads, Body 10x10mm, Pitch 0.8mm, IPC High Density)
footprint VQG44_M (Thin QFP, 44-Leads, Body 10x10mm, Pitch 0.8mm, IPC Low Density)
signal-integrity model XC9572XL_VQ44 (XC9500XL)
part A pins: 1 I/O,GCK3 (io), 2 I/O (io), 3 I/O (io), 39 I/O (io), 40 I/O (io), 41 I/O (io), 42 I/O (io), 43 I/O,GCK1 (io), 44 I/O,GCK2 (io)
part B pins: 29 I/O (io), 30 I/O (io), 31 I/O (io), 32 I/O (io), 33 I/O,GSR (io), 34 I/O,GTS2 (io), 36 I/O,GTS1 (io), 37 I/O (io), 38 I/O (io)
part C pins: 5 I/O (io), 6 I/O (io), 7 I/O (io), 8 I/O (io), 12 I/O (io), 13 I/O (io), 14 I/O (io), 16 I/O (io), 18 I/O (io)
part D pins: 19 I/O (io), 20 I/O (io), 21 I/O (io), 22 I/O (io), 23 I/O (io), 27 I/O (io), 28 I/O (io)
part E pins: 9 TDI (in), 10 TMS (in), 11 TCK (in), 24 TDO (out)
part F pins: 15 VCCINT 3.3V (power), 26 VCCIO 2.5V/3.3V (power), 35 VCCINT 3.3V (power)
part G pins: 4 GND (power), 17 GND (power), 25 GND (power)
part A text: BANK 1
part B text: BANK 2
part C text: BANK 3
part D text: BANK 4

## XC9572XL-7VQG64C
designator U?
FastFLASH XC900XL, 3.3V High-Performance 72 Macrocell CPLD, 52 User I/Os, 64-Pin VQFP, Speed Grade 7, Commercial Grade, Pb-Free; Published: 8-Sep-2006; LatestRevisionDate: 18-Nov-2009; LatestRevisionNote: Updated to datasheet version 2.5 May-2009.; DatasheetVersion: ver2.0 Apr-2007; PackageVersion: ver1.2, Jun-2004; PackageReference: VQG64; Publisher: Altium Limited; PackageDescription: 64-Pin Very Thin Quad Flat Pack (VQG64) - Pb-Free; Supplier 1: Digi-Key; Supplier Part Number 1: 122-1450-ND; Code_JEDEC: MS-026-ACD; ComponentLink1Description: XC9572XL Datasheet; ComponentLink1URL: http://www.xilinx.com/support/documentation/data_sheets/ds057.pdf; ComponentLink2Description: VQG64 Package Drawing; ComponentLink2URL: http://www.xilinx.com/support/documentation/package_specs/vq64.pdf; ComponentLink3Description: XC9500XL Documents; ComponentLink3URL: http://www.xilinx.com/support/documentation/xc9500xl.htm; ComponentLink4Description: Xilinx.com Home; ComponentLink4URL: http://www.xilinx.com
footprint VQG64_N (Thin QFP, 64-Leads, Body 10x10mm, Pitch 0.5mm, IPC Medium Density)
footprint VQG64_L (Thin QFP, 64-Leads, Body 10x10mm, Pitch 0.5mm, IPC High Density)
footprint VQG64_M (Thin QFP, 64-Leads, Body 10x10mm, Pitch 0.5mm, IPC Low Density)
signal-integrity model XC9572XL_VQ64 (XC9500XL)
part A pins: 8 I/O (io), 9 I/O (io), 10 I/O (io), 11 I/O (io), 12 I/O (io), 13 I/O (io), 15 I/O,GCK1 (io), 16 I/O,GCK2 (io), 17 I/O,GCK3 (io), 18 I/O (io), 19 I/O (io), 20 I/O (io), 23 I/O (io)
part B pins: 1 I/O (io), 2 I/O,GTS2 (io), 4 I/O (io), 5 I/O,GTS1 (io), 6 I/O (io), 7 I/O (io), 58 I/O (io), 59 I/O (io), 60 I/O (io), 61 I/O (io), 62 I/O (io), 63 I/O (io), 64 I/O,GSR (io)
part C pins: 22 I/O (io), 24 I/O (io), 25 I/O (io), 27 I/O (io), 31 I/O (io), 32 I/O (io), 33 I/O (io), 34 I/O (io), 35 I/O (io), 36 I/O (io), 38 I/O (io), 39 I/O (io), 40 I/O (io), 42 I/O (io)
part D pins: 43 I/O (io), 44 I/O (io), 45 I/O (io), 46 I/O (io), 47 I/O (io), 48 I/O (io), 49 I/O (io), 50 I/O (io), 51 I/O (io), 52 I/O (io), 56 I/O (io), 57 I/O (io)
part E pins: 28 TDI (in), 29 TMS (in), 30 TCK (in), 53 TDO (out)
part F pins: 3 VCCINT 3.3V (power), 26 VCCIO 2.5V/3.3V (power), 37 VCCINT 3.3V (power), 55 VCCIO 2.5V/3.3V (power)
part G pins: 14 GND (power), 21 GND (power), 41 GND (power), 54 GND (power)
part A text: BANK 1
part B text: BANK 2
part C text: BANK 3
part D text: BANK 4